# Altium integrated library Microchip DSC 16-Bit dsPIC30F.IntLib: 277 symbols (part 4 of 12)
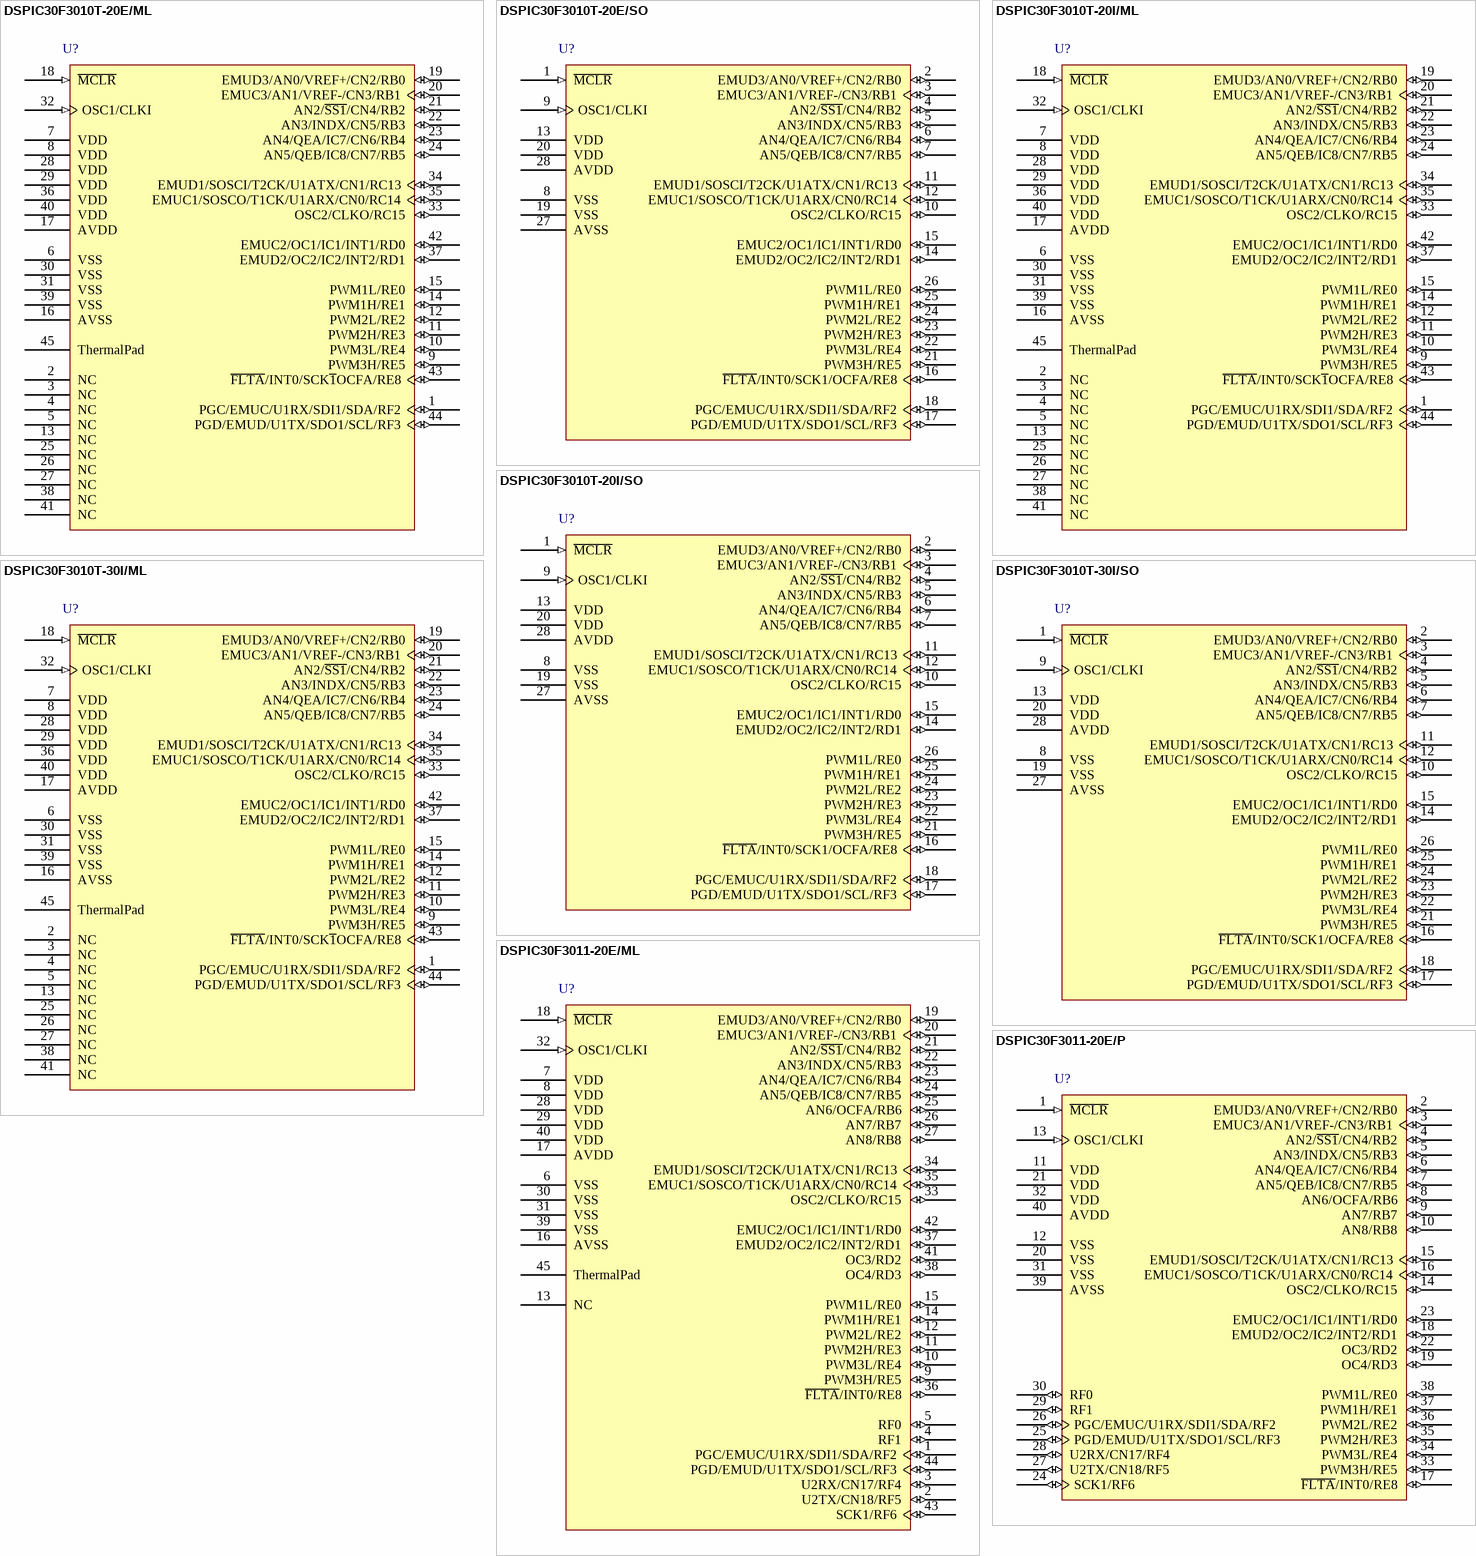
[diagram p47: symbols DSPIC30F3010T-20E/ML to DSPIC30F3011-20E/P]

## DSPIC30F3010T-20I/SO
designator U?
High-Performance 16-bit Digital Signal Controller, 24 KB Flash, 1 KB SRAM, 1 KB EEPROM, 28-Pin SOIC, Industrial Temperature, Tape and Reel; Published: 29-Jan-2009; DatasheetVersion: revE, Apr-2008; PackageVersion: revAW, Oct-2008; PackageReference: SOIC-SO28; Publisher: Altium Limited; PackageDescription: 28-Lead Plastic Small Outline (SO) - Wide 7.50mm Body [SOIC]; Code_JEDEC: MS-013; ComponentLink1Description: Manufacturer Link; ComponentLink1URL: http://www.microchip.com; ComponentLink2Description: Datasheet; ComponentLink2URL: http://ww1.microchip.com/downloads/en/DeviceDoc/70141e.pdf; ComponentLink3Description: Packaging Specification; ComponentLink3URL: http://ww1.microchip.com/downloads/en/PackagingSpec/00049AW.pdf
footprint SOIC-SO28_N (SOIC, 28-Leads, Body 17.9x7.5mm, Pitch 1.27mm, IPC Medium Density)
footprint SOIC-SO28_L (SOIC, 28-Leads, Body 17.9x7.5mm, Pitch 1.27mm, IPC High Density)
footprint SOIC-SO28_M (SOIC, 28-Leads, Body 17.9x7.5mm, Pitch 1.27mm, IPC Low Density)
pins: 1 ~{MCLR} (in), 2 EMUD3/AN0/VREF+/CN2/RB0 (io), 3 EMUC3/AN1/VREF-/CN3/RB1 (io), 4 AN2/~{SS1}/CN4/RB2 (io), 5 AN3/INDX/CN5/RB3 (io), 6 AN4/QEA/IC7/CN6/RB4 (io), 7 AN5/QEB/IC8/CN7/RB5 (io), 8 VSS (power), 9 OSC1/CLKI (in), 10 OSC2/CLKO/RC15 (io), 11 EMUD1/SOSCI/T2CK/U1ATX/CN1/RC13 (io), 12 EMUC1/SOSCO/T1CK/U1ARX/CN0/RC14 (io), 13 VDD (power), 14 EMUD2/OC2/IC2/INT2/RD1 (io), 15 EMUC2/OC1/IC1/INT1/RD0 (io), 16 ~{FLTA}/INT0/SCK1/OCFA/RE8 (io), 17 PGD/EMUD/U1TX/SDO1/SCL/RF3 (io), 18 PGC/EMUC/U1RX/SDI1/SDA/RF2 (io), 19 VSS (power), 20 VDD (power), 21 PWM3H/RE5 (io), 22 PWM3L/RE4 (io), 23 PWM2H/RE3 (io), 24 PWM2L/RE2 (io), 25 PWM1H/RE1 (io), 26 PWM1L/RE0 (io), 27 AVSS (power), 28 AVDD (power)

## DSPIC30F3010T-30I/ML
designator U?
High-Performance 16-bit Digital Signal Controller, 24 KB Flash, 1 KB SRAM, 1 KB EEPROM, 44-Pin QFN, Industrial Temperature, Tape and Reel; Published: 29-Jan-2009; DatasheetVersion: revE, Apr-2008; PackageVersion: revAW, Oct-2008; PackageReference: QFN-ML44; Publisher: Altium Limited; PackageDescription: 44-Lead Plastic Quad Flat, No Lead Package (ML) - 8x8 mm Body [QFN]; Code_JEDEC: MO-220; Code_IPC: QFN65P800X800-44V2; ComponentLink1Description: Manufacturer Link; ComponentLink1URL: http://www.microchip.com; ComponentLink2Description: Datasheet; ComponentLink2URL: http://ww1.microchip.com/downloads/en/DeviceDoc/70141e.pdf; ComponentLink3Description: Packaging Specification; ComponentLink3URL: http://ww1.microchip.com/downloads/en/PackagingSpec/00049AW.pdf
footprint QFN-ML44_N (QFN, 44-Leads, Body 8x8 mm, Pitch 0.65mm, IPC Medium Density)
footprint QFN-ML44_L (QFN, 44-Leads, Body 8x8 mm, Pitch 0.65mm, IPC High Density)
footprint QFN-ML44_M (QFN, 44-Leads, Body 8x8 mm, Pitch 0.65mm, IPC Low Density)
pins: 1 PGC/EMUC/U1RX/SDI1/SDA/RF2 (io), 2 NC, 3 NC, 4 NC, 5 NC, 6 VSS (power), 7 VDD (power), 8 VDD (power), 9 PWM3H/RE5 (io), 10 PWM3L/RE4 (io), 11 PWM2H/RE3 (io), 12 PWM2L/RE2 (io), 13 NC, 14 PWM1H/RE1 (io), 15 PWM1L/RE0 (io), 16 AVSS (power), 17 AVDD (power), 18 ~{MCLR} (in), 19 EMUD3/AN0/VREF+/CN2/RB0 (io), 20 EMUC3/AN1/VREF-/CN3/RB1 (io), 21 AN2/~{SS1}/CN4/RB2 (io), 22 AN3/INDX/CN5/RB3 (io), 23 AN4/QEA/IC7/CN6/RB4 (io), 24 AN5/QEB/IC8/CN7/RB5 (io), 25 NC, 26 NC, 27 NC, 28 VDD (power), 29 VDD (power), 30 VSS (power), 31 VSS (power), 32 OSC1/CLKI (in), 33 OSC2/CLKO/RC15 (io), 34 EMUD1/SOSCI/T2CK/U1ATX/CN1/RC13 (io), 35 EMUC1/SOSCO/T1CK/U1ARX/CN0/RC14 (io), 36 VDD (power), 37 EMUD2/OC2/IC2/INT2/RD1 (io), 38 NC, 39 VSS (power), 40 VDD (power), 41 NC, 42 EMUC2/OC1/IC1/INT1/RD0 (io), 43 ~{FLTA}/INT0/SCK~{1}OCFA/RE8 (io), 44 PGD/EMUD/U1TX/SDO1/SCL/RF3 (io), 45 ThermalPad

## DSPIC30F3010T-30I/SO
designator U?
High-Performance 16-bit Digital Signal Controller, 24 KB Flash, 1 KB SRAM, 1 KB EEPROM, 28-Pin SOIC, Industrial Temperature, Tape and Reel; Published: 29-Jan-2009; DatasheetVersion: revE, Apr-2008; PackageVersion: revAW, Oct-2008; PackageReference: SOIC-SO28; Publisher: Altium Limited; PackageDescription: 28-Lead Plastic Small Outline (SO) - Wide 7.50mm Body [SOIC]; Code_JEDEC: MS-013; ComponentLink1Description: Manufacturer Link; ComponentLink1URL: http://www.microchip.com; ComponentLink2Description: Datasheet; ComponentLink2URL: http://ww1.microchip.com/downloads/en/DeviceDoc/70141e.pdf; ComponentLink3Description: Packaging Specification; ComponentLink3URL: http://ww1.microchip.com/downloads/en/PackagingSpec/00049AW.pdf
footprint SOIC-SO28_N (SOIC, 28-Leads, Body 17.9x7.5mm, Pitch 1.27mm, IPC Medium Density)
footprint SOIC-SO28_L (SOIC, 28-Leads, Body 17.9x7.5mm, Pitch 1.27mm, IPC High Density)
footprint SOIC-SO28_M (SOIC, 28-Leads, Body 17.9x7.5mm, Pitch 1.27mm, IPC Low Density)
pins: 1 ~{MCLR} (in), 2 EMUD3/AN0/VREF+/CN2/RB0 (io), 3 EMUC3/AN1/VREF-/CN3/RB1 (io), 4 AN2/~{SS1}/CN4/RB2 (io), 5 AN3/INDX/CN5/RB3 (io), 6 AN4/QEA/IC7/CN6/RB4 (io), 7 AN5/QEB/IC8/CN7/RB5 (io), 8 VSS (power), 9 OSC1/CLKI (in), 10 OSC2/CLKO/RC15 (io), 11 EMUD1/SOSCI/T2CK/U1ATX/CN1/RC13 (io), 12 EMUC1/SOSCO/T1CK/U1ARX/CN0/RC14 (io), 13 VDD (power), 14 EMUD2/OC2/IC2/INT2/RD1 (io), 15 EMUC2/OC1/IC1/INT1/RD0 (io), 16 ~{FLTA}/INT0/SCK1/OCFA/RE8 (io), 17 PGD/EMUD/U1TX/SDO1/SCL/RF3 (io), 18 PGC/EMUC/U1RX/SDI1/SDA/RF2 (io), 19 VSS (power), 20 VDD (power), 21 PWM3H/RE5 (io), 22 PWM3L/RE4 (io), 23 PWM2H/RE3 (io), 24 PWM2L/RE2 (io), 25 PWM1H/RE1 (io), 26 PWM1L/RE0 (io), 27 AVSS (power), 28 AVDD (power)

## DSPIC30F3011-20E/ML
designator U?
High-Performance 16-bit Digital Signal Controller, 24 KB Flash, 1 KB SRAM, 1 KB EEPROM, 44-Pin QFN, Extended High Temperature; Published: 29-Jan-2009; DatasheetVersion: revE, Apr-2008; PackageVersion: revAW, Oct-2008; PackageReference: QFN-ML44; Publisher: Altium Limited; PackageDescription: 44-Lead Plastic Quad Flat, No Lead Package (ML) - 8x8 mm Body [QFN]; Code_JEDEC: MO-220; Code_IPC: QFN65P800X800-44V2; ComponentLink1Description: Manufacturer Link; ComponentLink1URL: http://www.microchip.com; ComponentLink2Description: Datasheet; ComponentLink2URL: http://ww1.microchip.com/downloads/en/DeviceDoc/70141e.pdf; ComponentLink3Description: Packaging Specification; ComponentLink3URL: http://ww1.microchip.com/downloads/en/PackagingSpec/00049AW.pdf
footprint QFN-ML44_N (QFN, 44-Leads, Body 8x8 mm, Pitch 0.65mm, IPC Medium Density)
footprint QFN-ML44_L (QFN, 44-Leads, Body 8x8 mm, Pitch 0.65mm, IPC High Density)
footprint QFN-ML44_M (QFN, 44-Leads, Body 8x8 mm, Pitch 0.65mm, IPC Low Density)
pins: 1 PGC/EMUC/U1RX/SDI1/SDA/RF2 (io), 2 U2TX/CN18/RF5 (io), 3 U2RX/CN17/RF4 (io), 4 RF1 (io), 5 RF0 (io), 6 VSS (power), 7 VDD (power), 8 VDD (power), 9 PWM3H/RE5 (io), 10 PWM3L/RE4 (io), 11 PWM2H/RE3 (io), 12 PWM2L/RE2 (io), 13 NC, 14 PWM1H/RE1 (io), 15 PWM1L/RE0 (io), 16 AVSS (power), 17 AVDD (power), 18 ~{MCLR} (in), 19 EMUD3/AN0/VREF+/CN2/RB0 (io), 20 EMUC3/AN1/VREF-/CN3/RB1 (io), 21 AN2/~{SS1}/CN4/RB2 (io), 22 AN3/INDX/CN5/RB3 (io), 23 AN4/QEA/IC7/CN6/RB4 (io), 24 AN5/QEB/IC8/CN7/RB5 (io), 25 AN6/OCFA/RB6 (io), 26 AN7/RB7 (io), 27 AN8/RB8 (io), 28 VDD (power), 29 VDD (power), 30 VSS (power), 31 VSS (power), 32 OSC1/CLKI (in), 33 OSC2/CLKO/RC15 (io), 34 EMUD1/SOSCI/T2CK/U1ATX/CN1/RC13 (io), 35 EMUC1/SOSCO/T1CK/U1ARX/CN0/RC14 (io), 36 ~{FLTA}/INT0/RE8 (io), 37 EMUD2/OC2/IC2/INT2/RD1 (io), 38 OC4/RD3 (io), 39 VSS (power), 40 VDD (power), 41 OC3/RD2 (io), 42 EMUC2/OC1/IC1/INT1/RD0 (io), 43 SCK1/RF6 (io), 44 PGD/EMUD/U1TX/SDO1/SCL/RF3 (io), 45 ThermalPad

## DSPIC30F3011-20E/P
designator U?
High-Performance 16-bit Digital Signal Controller, 24 KB Flash, 1 KB SRAM, 1 KB EEPROM, 40-Pin PDIP, Extended High Temperature; Published: 29-Jan-2009; DatasheetVersion: revE, Apr-2008; PackageVersion: revAW, Oct-2008; PackageReference: PDIP600-P40; Publisher: Altium Limited; PackageDescription: 40-Lead Plastic Dual In-Line (P) - 600 mil Body [PDIP]; ComponentLink1Description: Manufacturer Link; ComponentLink1URL: http://www.microchip.com; ComponentLink2Description: Datasheet; ComponentLink2URL: http://ww1.microchip.com/downloads/en/DeviceDoc/70141e.pdf; ComponentLink3Description: Packaging Specification; ComponentLink3URL: http://ww1.microchip.com/downloads/en/PackagingSpec/00049AW.pdf
footprint PDIP600-P40 (DIP, 40-Leads, Row Spacing 15.24mm, Pitch 2.54mm, Body 51.8x13.5mm)
pins: 1 ~{MCLR} (in), 2 EMUD3/AN0/VREF+/CN2/RB0 (io), 3 EMUC3/AN1/VREF-/CN3/RB1 (io), 4 AN2/~{SS1}/CN4/RB2 (io), 5 AN3/INDX/CN5/RB3 (io), 6 AN4/QEA/IC7/CN6/RB4 (io), 7 AN5/QEB/IC8/CN7/RB5 (io), 8 AN6/OCFA/RB6 (io), 9 AN7/RB7 (io), 10 AN8/RB8 (io), 11 VDD (power), 12 VSS (power), 13 OSC1/CLKI (in), 14 OSC2/CLKO/RC15 (io), 15 EMUD1/SOSCI/T2CK/U1ATX/CN1/RC13 (io), 16 EMUC1/SOSCO/T1CK/U1ARX/CN0/RC14 (io), 17 ~{FLTA}/INT0/RE8 (io), 18 EMUD2/OC2/IC2/INT2/RD1 (io), 19 OC4/RD3 (io), 20 VSS (power), 21 VDD (power), 22 OC3/RD2 (io), 23 EMUC2/OC1/IC1/INT1/RD0 (io), 24 SCK1/RF6 (io), 25 PGD/EMUD/U1TX/SDO1/SCL/RF3 (io), 26 PGC/EMUC/U1RX/SDI1/SDA/RF2 (io), 27 U2TX/CN18/RF5 (io), 28 U2RX/CN17/RF4 (io), 29 RF1 (io), 30 RF0 (io), 31 VSS (power), 32 VDD (power), 33 PWM3H/RE5 (io), 34 PWM3L/RE4 (io), 35 PWM2H/RE3 (io), 36 PWM2L/RE2 (io), 37 PWM1H/RE1 (io), 38 PWM1L/RE0 (io), 39 AVSS (power), 40 AVDD (power)

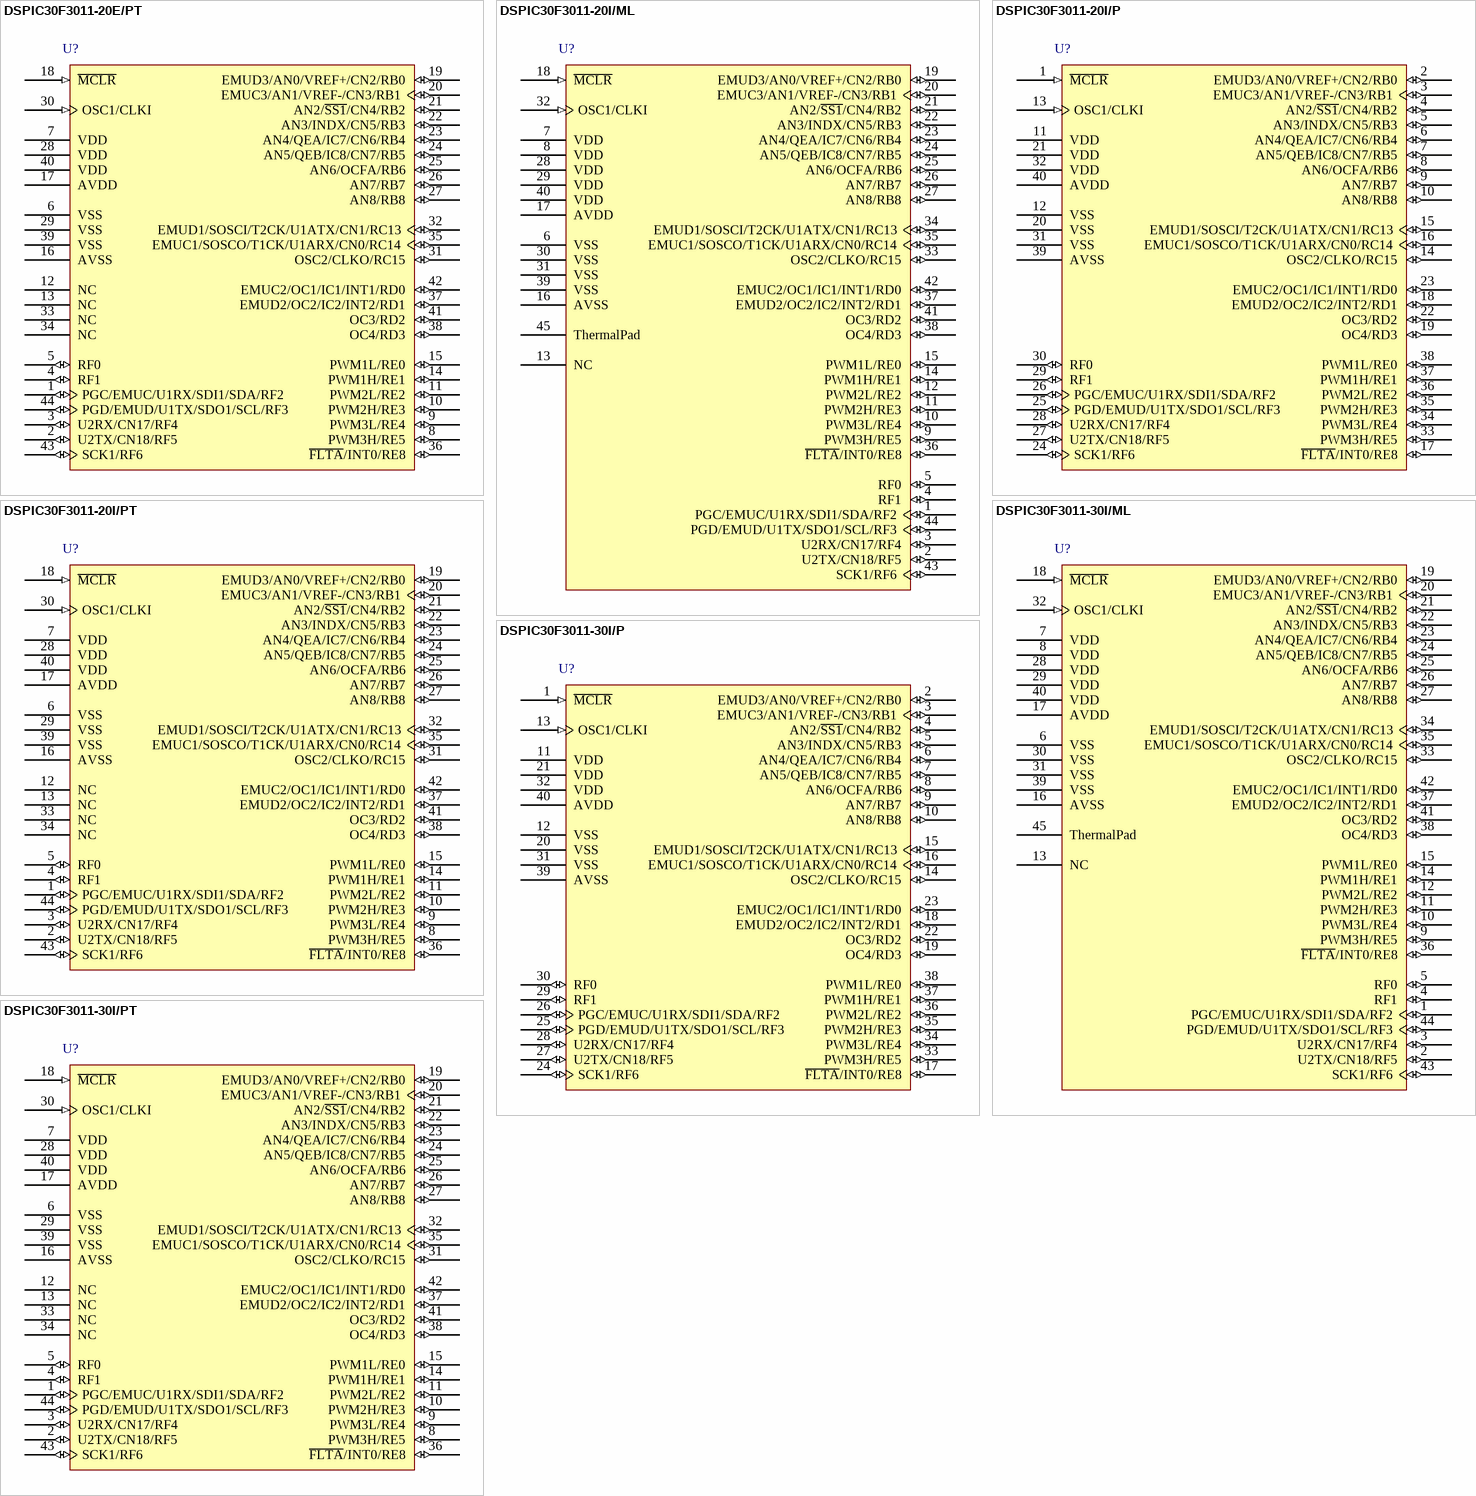
[diagram p11: symbols DSPIC30F3011-20E/PT to DSPIC30F3011-30I/PT]

## DSPIC30F3011-20E/PT
designator U?
High-Performance 16-bit Digital Signal Controller, 24 KB Flash, 1 KB SRAM, 1 KB EEPROM, 44-Pin TQFP, Extended High Temperature; Published: 29-Jan-2009; DatasheetVersion: revE, Apr-2008; PackageVersion: revAW, Oct-2008; PackageReference: TQFP-PT44; Publisher: Altium Limited; PackageDescription: 44-Lead Plastic Thin Quad Flatpack (PT) - 10x10x1mm Body, 2.00mm [TQFP]; Code_JEDEC: MS-026; ComponentLink1Description: Manufacturer Link; ComponentLink1URL: http://www.microchip.com; ComponentLink2Description: Datasheet; ComponentLink2URL: http://ww1.microchip.com/downloads/en/DeviceDoc/70141e.pdf; ComponentLink3Description: Packaging Specification; ComponentLink3URL: http://ww1.microchip.com/downloads/en/PackagingSpec/00049AW.pdf
footprint TQFP-PT44_N (Thin QFP, 44-Leads, Body 10x10mm, Pitch 0.8mm, IPC Medium Density)
footprint TQFP-PT44_L (Thin QFP, 44-Leads, Body 10x10mm, Pitch 0.8mm, IPC High Density)
footprint TQFP-PT44_M (Thin QFP, 44-Leads, Body 10x10mm, Pitch 0.8mm, IPC Low Density)
pins: 1 PGC/EMUC/U1RX/SDI1/SDA/RF2 (io), 2 U2TX/CN18/RF5 (io), 3 U2RX/CN17/RF4 (io), 4 RF1 (io), 5 RF0 (io), 6 VSS (power), 7 VDD (power), 8 PWM3H/RE5 (io), 9 PWM3L/RE4 (io), 10 PWM2H/RE3 (io), 11 PWM2L/RE2 (io), 12 NC, 13 NC, 14 PWM1H/RE1 (io), 15 PWM1L/RE0 (io), 16 AVSS (power), 17 AVDD (power), 18 ~{MCLR} (in), 19 EMUD3/AN0/VREF+/CN2/RB0 (io), 20 EMUC3/AN1/VREF-/CN3/RB1 (io), 21 AN2/~{SS1}/CN4/RB2 (io), 22 AN3/INDX/CN5/RB3 (io), 23 AN4/QEA/IC7/CN6/RB4 (io), 24 AN5/QEB/IC8/CN7/RB5 (io), 25 AN6/OCFA/RB6 (io), 26 AN7/RB7 (io), 27 AN8/RB8 (io), 28 VDD (power), 29 VSS (power), 30 OSC1/CLKI (in), 31 OSC2/CLKO/RC15 (io), 32 EMUD1/SOSCI/T2CK/U1ATX/CN1/RC13 (io), 33 NC, 34 NC, 35 EMUC1/SOSCO/T1CK/U1ARX/CN0/RC14 (io), 36 ~{FLTA}/INT0/RE8 (io), 37 EMUD2/OC2/IC2/INT2/RD1 (io), 38 OC4/RD3 (io), 39 VSS (power), 40 VDD (power), 41 OC3/RD2 (io), 42 EMUC2/OC1/IC1/INT1/RD0 (io), 43 SCK1/RF6 (io), 44 PGD/EMUD/U1TX/SDO1/SCL/RF3 (io)

## DSPIC30F3011-20I/ML
designator U?
High-Performance 16-bit Digital Signal Controller, 24 KB Flash, 1 KB SRAM, 1 KB EEPROM, 44-Pin QFN, Industrial Temperature; Published: 29-Jan-2009; DatasheetVersion: revE, Apr-2008; PackageVersion: revAW, Oct-2008; PackageReference: QFN-ML44; Publisher: Altium Limited; PackageDescription: 44-Lead Plastic Quad Flat, No Lead Package (ML) - 8x8 mm Body [QFN]; Code_JEDEC: MO-220; Code_IPC: QFN65P800X800-44V2; ComponentLink1Description: Manufacturer Link; ComponentLink1URL: http://www.microchip.com; ComponentLink2Description: Datasheet; ComponentLink2URL: http://ww1.microchip.com/downloads/en/DeviceDoc/70141e.pdf; ComponentLink3Description: Packaging Specification; ComponentLink3URL: http://ww1.microchip.com/downloads/en/PackagingSpec/00049AW.pdf
footprint QFN-ML44_N (QFN, 44-Leads, Body 8x8 mm, Pitch 0.65mm, IPC Medium Density)
footprint QFN-ML44_L (QFN, 44-Leads, Body 8x8 mm, Pitch 0.65mm, IPC High Density)
footprint QFN-ML44_M (QFN, 44-Leads, Body 8x8 mm, Pitch 0.65mm, IPC Low Density)
pins: 1 PGC/EMUC/U1RX/SDI1/SDA/RF2 (io), 2 U2TX/CN18/RF5 (io), 3 U2RX/CN17/RF4 (io), 4 RF1 (io), 5 RF0 (io), 6 VSS (power), 7 VDD (power), 8 VDD (power), 9 PWM3H/RE5 (io), 10 PWM3L/RE4 (io), 11 PWM2H/RE3 (io), 12 PWM2L/RE2 (io), 13 NC, 14 PWM1H/RE1 (io), 15 PWM1L/RE0 (io), 16 AVSS (power), 17 AVDD (power), 18 ~{MCLR} (in), 19 EMUD3/AN0/VREF+/CN2/RB0 (io), 20 EMUC3/AN1/VREF-/CN3/RB1 (io), 21 AN2/~{SS1}/CN4/RB2 (io), 22 AN3/INDX/CN5/RB3 (io), 23 AN4/QEA/IC7/CN6/RB4 (io), 24 AN5/QEB/IC8/CN7/RB5 (io), 25 AN6/OCFA/RB6 (io), 26 AN7/RB7 (io), 27 AN8/RB8 (io), 28 VDD (power), 29 VDD (power), 30 VSS (power), 31 VSS (power), 32 OSC1/CLKI (in), 33 OSC2/CLKO/RC15 (io), 34 EMUD1/SOSCI/T2CK/U1ATX/CN1/RC13 (io), 35 EMUC1/SOSCO/T1CK/U1ARX/CN0/RC14 (io), 36 ~{FLTA}/INT0/RE8 (io), 37 EMUD2/OC2/IC2/INT2/RD1 (io), 38 OC4/RD3 (io), 39 VSS (power), 40 VDD (power), 41 OC3/RD2 (io), 42 EMUC2/OC1/IC1/INT1/RD0 (io), 43 SCK1/RF6 (io), 44 PGD/EMUD/U1TX/SDO1/SCL/RF3 (io), 45 ThermalPad

## DSPIC30F3011-20I/P
designator U?
High-Performance 16-bit Digital Signal Controller, 24 KB Flash, 1 KB SRAM, 1 KB EEPROM, 40-Pin PDIP, Industrial Temperature; Published: 29-Jan-2009; DatasheetVersion: revE, Apr-2008; PackageVersion: revAW, Oct-2008; PackageReference: PDIP600-P40; Publisher: Altium Limited; PackageDescription: 40-Lead Plastic Dual In-Line (P) - 600 mil Body [PDIP]; ComponentLink1Description: Manufacturer Link; ComponentLink1URL: http://www.microchip.com; ComponentLink2Description: Datasheet; ComponentLink2URL: http://ww1.microchip.com/downloads/en/DeviceDoc/70141e.pdf; ComponentLink3Description: Packaging Specification; ComponentLink3URL: http://ww1.microchip.com/downloads/en/PackagingSpec/00049AW.pdf
footprint PDIP600-P40 (DIP, 40-Leads, Row Spacing 15.24mm, Pitch 2.54mm, Body 51.8x13.5mm)
pins: 1 ~{MCLR} (in), 2 EMUD3/AN0/VREF+/CN2/RB0 (io), 3 EMUC3/AN1/VREF-/CN3/RB1 (io), 4 AN2/~{SS1}/CN4/RB2 (io), 5 AN3/INDX/CN5/RB3 (io), 6 AN4/QEA/IC7/CN6/RB4 (io), 7 AN5/QEB/IC8/CN7/RB5 (io), 8 AN6/OCFA/RB6 (io), 9 AN7/RB7 (io), 10 AN8/RB8 (io), 11 VDD (power), 12 VSS (power), 13 OSC1/CLKI (in), 14 OSC2/CLKO/RC15 (io), 15 EMUD1/SOSCI/T2CK/U1ATX/CN1/RC13 (io), 16 EMUC1/SOSCO/T1CK/U1ARX/CN0/RC14 (io), 17 ~{FLTA}/INT0/RE8 (io), 18 EMUD2/OC2/IC2/INT2/RD1 (io), 19 OC4/RD3 (io), 20 VSS (power), 21 VDD (power), 22 OC3/RD2 (io), 23 EMUC2/OC1/IC1/INT1/RD0 (io), 24 SCK1/RF6 (io), 25 PGD/EMUD/U1TX/SDO1/SCL/RF3 (io), 26 PGC/EMUC/U1RX/SDI1/SDA/RF2 (io), 27 U2TX/CN18/RF5 (io), 28 U2RX/CN17/RF4 (io), 29 RF1 (io), 30 RF0 (io), 31 VSS (power), 32 VDD (power), 33 PWM3H/RE5 (io), 34 PWM3L/RE4 (io), 35 PWM2H/RE3 (io), 36 PWM2L/RE2 (io), 37 PWM1H/RE1 (io), 38 PWM1L/RE0 (io), 39 AVSS (power), 40 AVDD (power)

## DSPIC30F3011-20I/PT
designator U?
High-Performance 16-bit Digital Signal Controller, 24 KB Flash, 1 KB SRAM, 1 KB EEPROM, 44-Pin TQFP, Industrial Temperature; Published: 29-Jan-2009; DatasheetVersion: revE, Apr-2008; PackageVersion: revAW, Oct-2008; PackageReference: TQFP-PT44; Publisher: Altium Limited; PackageDescription: 44-Lead Plastic Thin Quad Flatpack (PT) - 10x10x1mm Body, 2.00mm [TQFP]; Code_JEDEC: MS-026; ComponentLink1Description: Manufacturer Link; ComponentLink1URL: http://www.microchip.com; ComponentLink2Description: Datasheet; ComponentLink2URL: http://ww1.microchip.com/downloads/en/DeviceDoc/70141e.pdf; ComponentLink3Description: Packaging Specification; ComponentLink3URL: http://ww1.microchip.com/downloads/en/PackagingSpec/00049AW.pdf
footprint TQFP-PT44_N (Thin QFP, 44-Leads, Body 10x10mm, Pitch 0.8mm, IPC Medium Density)
footprint TQFP-PT44_L (Thin QFP, 44-Leads, Body 10x10mm, Pitch 0.8mm, IPC High Density)
footprint TQFP-PT44_M (Thin QFP, 44-Leads, Body 10x10mm, Pitch 0.8mm, IPC Low Density)
pins: 1 PGC/EMUC/U1RX/SDI1/SDA/RF2 (io), 2 U2TX/CN18/RF5 (io), 3 U2RX/CN17/RF4 (io), 4 RF1 (io), 5 RF0 (io), 6 VSS (power), 7 VDD (power), 8 PWM3H/RE5 (io), 9 PWM3L/RE4 (io), 10 PWM2H/RE3 (io), 11 PWM2L/RE2 (io), 12 NC, 13 NC, 14 PWM1H/RE1 (io), 15 PWM1L/RE0 (io), 16 AVSS (power), 17 AVDD (power), 18 ~{MCLR} (in), 19 EMUD3/AN0/VREF+/CN2/RB0 (io), 20 EMUC3/AN1/VREF-/CN3/RB1 (io), 21 AN2/~{SS1}/CN4/RB2 (io), 22 AN3/INDX/CN5/RB3 (io), 23 AN4/QEA/IC7/CN6/RB4 (io), 24 AN5/QEB/IC8/CN7/RB5 (io), 25 AN6/OCFA/RB6 (io), 26 AN7/RB7 (io), 27 AN8/RB8 (io), 28 VDD (power), 29 VSS (power), 30 OSC1/CLKI (in), 31 OSC2/CLKO/RC15 (io), 32 EMUD1/SOSCI/T2CK/U1ATX/CN1/RC13 (io), 33 NC, 34 NC, 35 EMUC1/SOSCO/T1CK/U1ARX/CN0/RC14 (io), 36 ~{FLTA}/INT0/RE8 (io), 37 EMUD2/OC2/IC2/INT2/RD1 (io), 38 OC4/RD3 (io), 39 VSS (power), 40 VDD (power), 41 OC3/RD2 (io), 42 EMUC2/OC1/IC1/INT1/RD0 (io), 43 SCK1/RF6 (io), 44 PGD/EMUD/U1TX/SDO1/SCL/RF3 (io)

## DSPIC30F3011-30I/ML
designator U?
High-Performance 16-bit Digital Signal Controller, 24 KB Flash, 1 KB SRAM, 1 KB EEPROM, 44-Pin QFN, Industrial Temperature; Published: 29-Jan-2009; DatasheetVersion: revE, Apr-2008; PackageVersion: revAW, Oct-2008; PackageReference: QFN-ML44; Publisher: Altium Limited; PackageDescription: 44-Lead Plastic Quad Flat, No Lead Package (ML) - 8x8 mm Body [QFN]; Code_JEDEC: MO-220; Code_IPC: QFN65P800X800-44V2; ComponentLink1Description: Manufacturer Link; ComponentLink1URL: http://www.microchip.com; ComponentLink2Description: Datasheet; ComponentLink2URL: http://ww1.microchip.com/downloads/en/DeviceDoc/70141e.pdf; ComponentLink3Description: Packaging Specification; ComponentLink3URL: http://ww1.microchip.com/downloads/en/PackagingSpec/00049AW.pdf
footprint QFN-ML44_N (QFN, 44-Leads, Body 8x8 mm, Pitch 0.65mm, IPC Medium Density)
footprint QFN-ML44_L (QFN, 44-Leads, Body 8x8 mm, Pitch 0.65mm, IPC High Density)
footprint QFN-ML44_M (QFN, 44-Leads, Body 8x8 mm, Pitch 0.65mm, IPC Low Density)
pins: 1 PGC/EMUC/U1RX/SDI1/SDA/RF2 (io), 2 U2TX/CN18/RF5 (io), 3 U2RX/CN17/RF4 (io), 4 RF1 (io), 5 RF0 (io), 6 VSS (power), 7 VDD (power), 8 VDD (power), 9 PWM3H/RE5 (io), 10 PWM3L/RE4 (io), 11 PWM2H/RE3 (io), 12 PWM2L/RE2 (io), 13 NC, 14 PWM1H/RE1 (io), 15 PWM1L/RE0 (io), 16 AVSS (power), 17 AVDD (power), 18 ~{MCLR} (in), 19 EMUD3/AN0/VREF+/CN2/RB0 (io), 20 EMUC3/AN1/VREF-/CN3/RB1 (io), 21 AN2/~{SS1}/CN4/RB2 (io), 22 AN3/INDX/CN5/RB3 (io), 23 AN4/QEA/IC7/CN6/RB4 (io), 24 AN5/QEB/IC8/CN7/RB5 (io), 25 AN6/OCFA/RB6 (io), 26 AN7/RB7 (io), 27 AN8/RB8 (io), 28 VDD (power), 29 VDD (power), 30 VSS (power), 31 VSS (power), 32 OSC1/CLKI (in), 33 OSC2/CLKO/RC15 (io), 34 EMUD1/SOSCI/T2CK/U1ATX/CN1/RC13 (io), 35 EMUC1/SOSCO/T1CK/U1ARX/CN0/RC14 (io), 36 ~{FLTA}/INT0/RE8 (io), 37 EMUD2/OC2/IC2/INT2/RD1 (io), 38 OC4/RD3 (io), 39 VSS (power), 40 VDD (power), 41 OC3/RD2 (io), 42 EMUC2/OC1/IC1/INT1/RD0 (io), 43 SCK1/RF6 (io), 44 PGD/EMUD/U1TX/SDO1/SCL/RF3 (io), 45 ThermalPad

## DSPIC30F3011-30I/P
designator U?
High-Performance 16-bit Digital Signal Controller, 24 KB Flash, 1 KB SRAM, 1 KB EEPROM, 40-Pin PDIP, Industrial Temperature; Published: 29-Jan-2009; DatasheetVersion: revE, Apr-2008; PackageVersion: revAW, Oct-2008; PackageReference: PDIP600-P40; Publisher: Altium Limited; PackageDescription: 40-Lead Plastic Dual In-Line (P) - 600 mil Body [PDIP]; ComponentLink1Description: Manufacturer Link; ComponentLink1URL: http://www.microchip.com; ComponentLink2Description: Datasheet; ComponentLink2URL: http://ww1.microchip.com/downloads/en/DeviceDoc/70141e.pdf; ComponentLink3Description: Packaging Specification; ComponentLink3URL: http://ww1.microchip.com/downloads/en/PackagingSpec/00049AW.pdf
footprint PDIP600-P40 (DIP, 40-Leads, Row Spacing 15.24mm, Pitch 2.54mm, Body 51.8x13.5mm)
pins: 1 ~{MCLR} (in), 2 EMUD3/AN0/VREF+/CN2/RB0 (io), 3 EMUC3/AN1/VREF-/CN3/RB1 (io), 4 AN2/~{SS1}/CN4/RB2 (io), 5 AN3/INDX/CN5/RB3 (io), 6 AN4/QEA/IC7/CN6/RB4 (io), 7 AN5/QEB/IC8/CN7/RB5 (io), 8 AN6/OCFA/RB6 (io), 9 AN7/RB7 (io), 10 AN8/RB8 (io), 11 VDD (power), 12 VSS (power), 13 OSC1/CLKI (in), 14 OSC2/CLKO/RC15 (io), 15 EMUD1/SOSCI/T2CK/U1ATX/CN1/RC13 (io), 16 EMUC1/SOSCO/T1CK/U1ARX/CN0/RC14 (io), 17 ~{FLTA}/INT0/RE8 (io), 18 EMUD2/OC2/IC2/INT2/RD1 (io), 19 OC4/RD3 (io), 20 VSS (power), 21 VDD (power), 22 OC3/RD2 (io), 23 EMUC2/OC1/IC1/INT1/RD0 (io), 24 SCK1/RF6 (io), 25 PGD/EMUD/U1TX/SDO1/SCL/RF3 (io), 26 PGC/EMUC/U1RX/SDI1/SDA/RF2 (io), 27 U2TX/CN18/RF5 (io), 28 U2RX/CN17/RF4 (io), 29 RF1 (io), 30 RF0 (io), 31 VSS (power), 32 VDD (power), 33 PWM3H/RE5 (io), 34 PWM3L/RE4 (io), 35 PWM2H/RE3 (io), 36 PWM2L/RE2 (io), 37 PWM1H/RE1 (io), 38 PWM1L/RE0 (io), 39 AVSS (power), 40 AVDD (power)

## DSPIC30F3011-30I/PT
designator U?
High-Performance 16-bit Digital Signal Controller, 24 KB Flash, 1 KB SRAM, 1 KB EEPROM, 44-Pin TQFP, Industrial Temperature; Published: 29-Jan-2009; DatasheetVersion: revE, Apr-2008; PackageVersion: revAW, Oct-2008; PackageReference: TQFP-PT44; Publisher: Altium Limited; PackageDescription: 44-Lead Plastic Thin Quad Flatpack (PT) - 10x10x1mm Body, 2.00mm [TQFP]; Code_JEDEC: MS-026; ComponentLink1Description: Manufacturer Link; ComponentLink1URL: http://www.microchip.com; ComponentLink2Description: Datasheet; ComponentLink2URL: http://ww1.microchip.com/downloads/en/DeviceDoc/70141e.pdf; ComponentLink3Description: Packaging Specification; ComponentLink3URL: http://ww1.microchip.com/downloads/en/PackagingSpec/00049AW.pdf
footprint TQFP-PT44_N (Thin QFP, 44-Leads, Body 10x10mm, Pitch 0.8mm, IPC Medium Density)
footprint TQFP-PT44_L (Thin QFP, 44-Leads, Body 10x10mm, Pitch 0.8mm, IPC High Density)
footprint TQFP-PT44_M (Thin QFP, 44-Leads, Body 10x10mm, Pitch 0.8mm, IPC Low Density)
pins: 1 PGC/EMUC/U1RX/SDI1/SDA/RF2 (io), 2 U2TX/CN18/RF5 (io), 3 U2RX/CN17/RF4 (io), 4 RF1 (io), 5 RF0 (io), 6 VSS (power), 7 VDD (power), 8 PWM3H/RE5 (io), 9 PWM3L/RE4 (io), 10 PWM2H/RE3 (io), 11 PWM2L/RE2 (io), 12 NC, 13 NC, 14 PWM1H/RE1 (io), 15 PWM1L/RE0 (io), 16 AVSS (power), 17 AVDD (power), 18 ~{MCLR} (in), 19 EMUD3/AN0/VREF+/CN2/RB0 (io), 20 EMUC3/AN1/VREF-/CN3/RB1 (io), 21 AN2/~{SS1}/CN4/RB2 (io), 22 AN3/INDX/CN5/RB3 (io), 23 AN4/QEA/IC7/CN6/RB4 (io), 24 AN5/QEB/IC8/CN7/RB5 (io), 25 AN6/OCFA/RB6 (io), 26 AN7/RB7 (io), 27 AN8/RB8 (io), 28 VDD (power), 29 VSS (power), 30 OSC1/CLKI (in), 31 OSC2/CLKO/RC15 (io), 32 EMUD1/SOSCI/T2CK/U1ATX/CN1/RC13 (io), 33 NC, 34 NC, 35 EMUC1/SOSCO/T1CK/U1ARX/CN0/RC14 (io), 36 ~{FLTA}/INT0/RE8 (io), 37 EMUD2/OC2/IC2/INT2/RD1 (io), 38 OC4/RD3 (io), 39 VSS (power), 40 VDD (power), 41 OC3/RD2 (io), 42 EMUC2/OC1/IC1/INT1/RD0 (io), 43 SCK1/RF6 (io), 44 PGD/EMUD/U1TX/SDO1/SCL/RF3 (io)

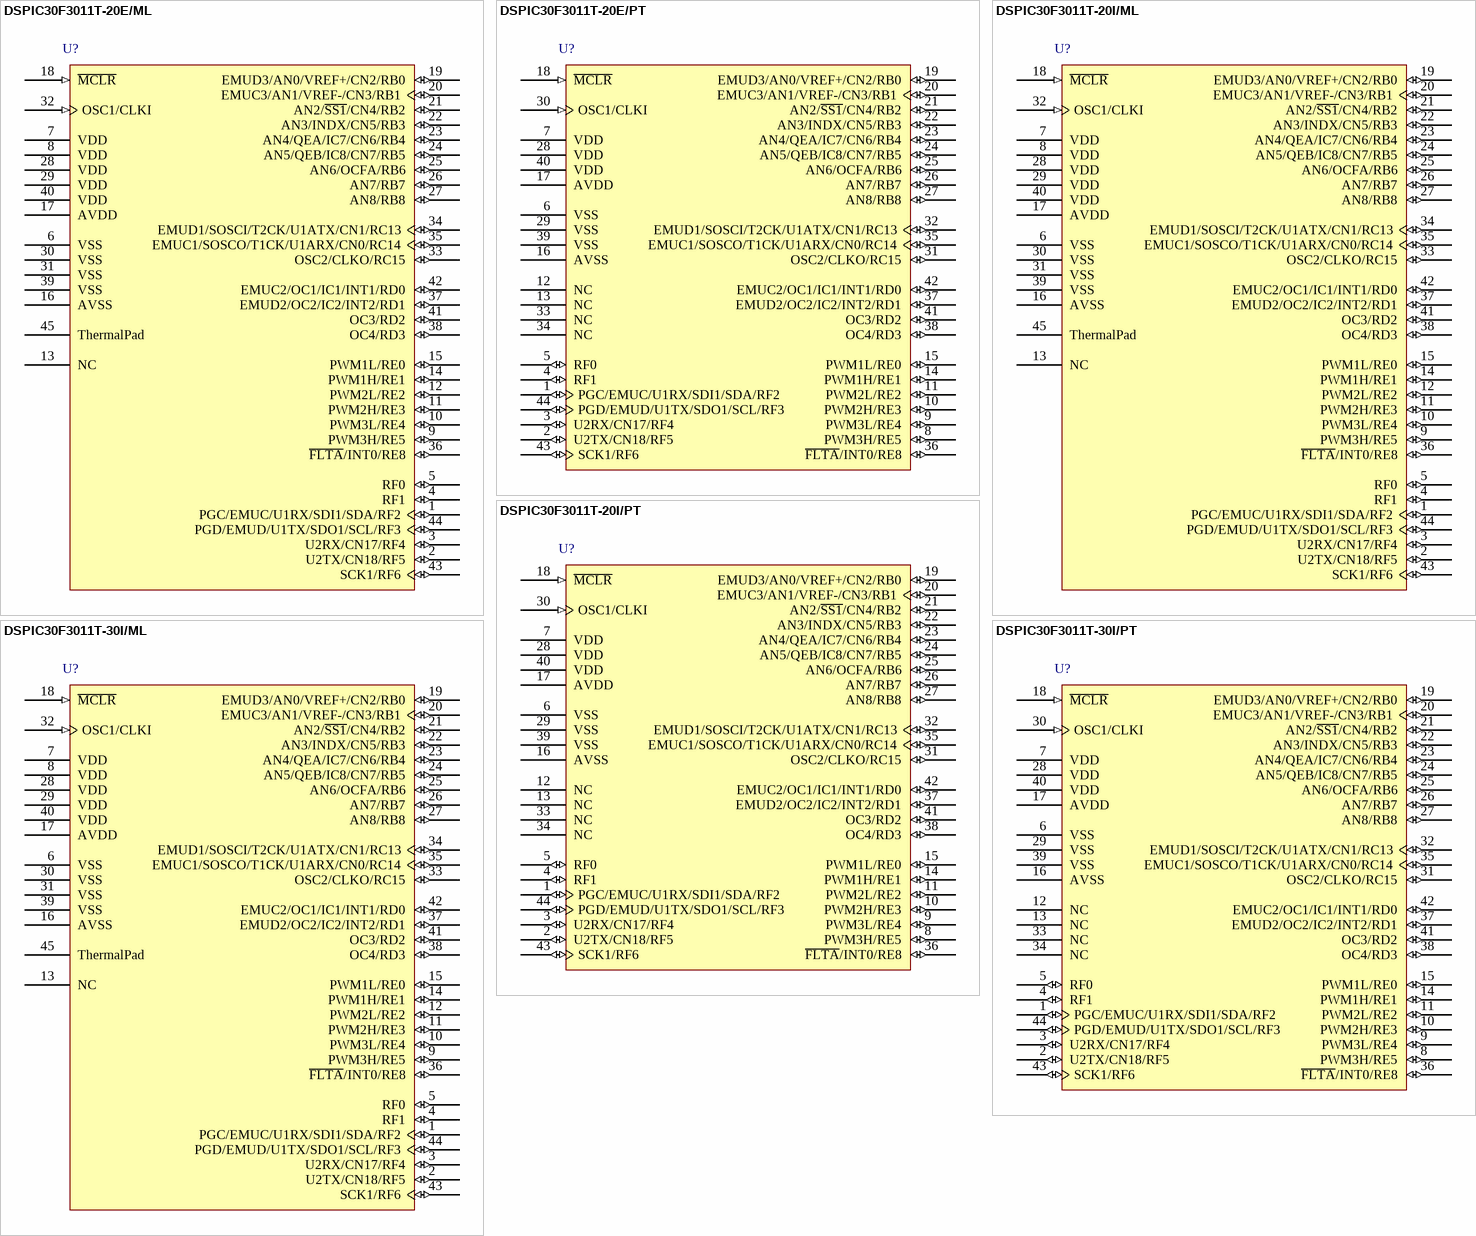
[diagram p12: symbols DSPIC30F3011T-20E/ML to DSPIC30F3011T-30I/PT]

## DSPIC30F3011T-20E/ML
designator U?
High-Performance 16-bit Digital Signal Controller, 24 KB Flash, 1 KB SRAM, 1 KB EEPROM, 44-Pin QFN, Extended High Temperature, Tape and Reel; Published: 29-Jan-2009; DatasheetVersion: revE, Apr-2008; PackageVersion: revAW, Oct-2008; PackageReference: QFN-ML44; Publisher: Altium Limited; PackageDescription: 44-Lead Plastic Quad Flat, No Lead Package (ML) - 8x8 mm Body [QFN]; Code_JEDEC: MO-220; Code_IPC: QFN65P800X800-44V2; ComponentLink1Description: Manufacturer Link; ComponentLink1URL: http://www.microchip.com; ComponentLink2Description: Datasheet; ComponentLink2URL: http://ww1.microchip.com/downloads/en/DeviceDoc/70141e.pdf; ComponentLink3Description: Packaging Specification; ComponentLink3URL: http://ww1.microchip.com/downloads/en/PackagingSpec/00049AW.pdf
footprint QFN-ML44_N (QFN, 44-Leads, Body 8x8 mm, Pitch 0.65mm, IPC Medium Density)
footprint QFN-ML44_L (QFN, 44-Leads, Body 8x8 mm, Pitch 0.65mm, IPC High Density)
footprint QFN-ML44_M (QFN, 44-Leads, Body 8x8 mm, Pitch 0.65mm, IPC Low Density)
pins: 1 PGC/EMUC/U1RX/SDI1/SDA/RF2 (io), 2 U2TX/CN18/RF5 (io), 3 U2RX/CN17/RF4 (io), 4 RF1 (io), 5 RF0 (io), 6 VSS (power), 7 VDD (power), 8 VDD (power), 9 PWM3H/RE5 (io), 10 PWM3L/RE4 (io), 11 PWM2H/RE3 (io), 12 PWM2L/RE2 (io), 13 NC, 14 PWM1H/RE1 (io), 15 PWM1L/RE0 (io), 16 AVSS (power), 17 AVDD (power), 18 ~{MCLR} (in), 19 EMUD3/AN0/VREF+/CN2/RB0 (io), 20 EMUC3/AN1/VREF-/CN3/RB1 (io), 21 AN2/~{SS1}/CN4/RB2 (io), 22 AN3/INDX/CN5/RB3 (io), 23 AN4/QEA/IC7/CN6/RB4 (io), 24 AN5/QEB/IC8/CN7/RB5 (io), 25 AN6/OCFA/RB6 (io), 26 AN7/RB7 (io), 27 AN8/RB8 (io), 28 VDD (power), 29 VDD (power), 30 VSS (power), 31 VSS (power), 32 OSC1/CLKI (in), 33 OSC2/CLKO/RC15 (io), 34 EMUD1/SOSCI/T2CK/U1ATX/CN1/RC13 (io), 35 EMUC1/SOSCO/T1CK/U1ARX/CN0/RC14 (io), 36 ~{FLTA}/INT0/RE8 (io), 37 EMUD2/OC2/IC2/INT2/RD1 (io), 38 OC4/RD3 (io), 39 VSS (power), 40 VDD (power), 41 OC3/RD2 (io), 42 EMUC2/OC1/IC1/INT1/RD0 (io), 43 SCK1/RF6 (io), 44 PGD/EMUD/U1TX/SDO1/SCL/RF3 (io), 45 ThermalPad

## DSPIC30F3011T-20E/PT
designator U?
High-Performance 16-bit Digital Signal Controller, 24 KB Flash, 1 KB SRAM, 1 KB EEPROM, 44-Pin TQFP, Extended High Temperature, Tape and Reel; Published: 29-Jan-2009; DatasheetVersion: revE, Apr-2008; PackageVersion: revAW, Oct-2008; PackageReference: TQFP-PT44; Publisher: Altium Limited; PackageDescription: 44-Lead Plastic Thin Quad Flatpack (PT) - 10x10x1mm Body, 2.00mm [TQFP]; Code_JEDEC: MS-026; ComponentLink1Description: Manufacturer Link; ComponentLink1URL: http://www.microchip.com; ComponentLink2Description: Datasheet; ComponentLink2URL: http://ww1.microchip.com/downloads/en/DeviceDoc/70141e.pdf; ComponentLink3Description: Packaging Specification; ComponentLink3URL: http://ww1.microchip.com/downloads/en/PackagingSpec/00049AW.pdf
footprint TQFP-PT44_N (Thin QFP, 44-Leads, Body 10x10mm, Pitch 0.8mm, IPC Medium Density)
footprint TQFP-PT44_L (Thin QFP, 44-Leads, Body 10x10mm, Pitch 0.8mm, IPC High Density)
footprint TQFP-PT44_M (Thin QFP, 44-Leads, Body 10x10mm, Pitch 0.8mm, IPC Low Density)
pins: 1 PGC/EMUC/U1RX/SDI1/SDA/RF2 (io), 2 U2TX/CN18/RF5 (io), 3 U2RX/CN17/RF4 (io), 4 RF1 (io), 5 RF0 (io), 6 VSS (power), 7 VDD (power), 8 PWM3H/RE5 (io), 9 PWM3L/RE4 (io), 10 PWM2H/RE3 (io), 11 PWM2L/RE2 (io), 12 NC, 13 NC, 14 PWM1H/RE1 (io), 15 PWM1L/RE0 (io), 16 AVSS (power), 17 AVDD (power), 18 ~{MCLR} (in), 19 EMUD3/AN0/VREF+/CN2/RB0 (io), 20 EMUC3/AN1/VREF-/CN3/RB1 (io), 21 AN2/~{SS1}/CN4/RB2 (io), 22 AN3/INDX/CN5/RB3 (io), 23 AN4/QEA/IC7/CN6/RB4 (io), 24 AN5/QEB/IC8/CN7/RB5 (io), 25 AN6/OCFA/RB6 (io), 26 AN7/RB7 (io), 27 AN8/RB8 (io), 28 VDD (power), 29 VSS (power), 30 OSC1/CLKI (in), 31 OSC2/CLKO/RC15 (io), 32 EMUD1/SOSCI/T2CK/U1ATX/CN1/RC13 (io), 33 NC, 34 NC, 35 EMUC1/SOSCO/T1CK/U1ARX/CN0/RC14 (io), 36 ~{FLTA}/INT0/RE8 (io), 37 EMUD2/OC2/IC2/INT2/RD1 (io), 38 OC4/RD3 (io), 39 VSS (power), 40 VDD (power), 41 OC3/RD2 (io), 42 EMUC2/OC1/IC1/INT1/RD0 (io), 43 SCK1/RF6 (io), 44 PGD/EMUD/U1TX/SDO1/SCL/RF3 (io)

## DSPIC30F3011T-20I/ML
designator U?
High-Performance 16-bit Digital Signal Controller, 24 KB Flash, 1 KB SRAM, 1 KB EEPROM, 44-Pin QFN, Industrial Temperature, Tape and Reel; Published: 29-Jan-2009; DatasheetVersion: revE, Apr-2008; PackageVersion: revAW, Oct-2008; PackageReference: QFN-ML44; Publisher: Altium Limited; PackageDescription: 44-Lead Plastic Quad Flat, No Lead Package (ML) - 8x8 mm Body [QFN]; Code_JEDEC: MO-220; Code_IPC: QFN65P800X800-44V2; ComponentLink1Description: Manufacturer Link; ComponentLink1URL: http://www.microchip.com; ComponentLink2Description: Datasheet; ComponentLink2URL: http://ww1.microchip.com/downloads/en/DeviceDoc/70141e.pdf; ComponentLink3Description: Packaging Specification; ComponentLink3URL: http://ww1.microchip.com/downloads/en/PackagingSpec/00049AW.pdf
footprint QFN-ML44_N (QFN, 44-Leads, Body 8x8 mm, Pitch 0.65mm, IPC Medium Density)
footprint QFN-ML44_L (QFN, 44-Leads, Body 8x8 mm, Pitch 0.65mm, IPC High Density)
footprint QFN-ML44_M (QFN, 44-Leads, Body 8x8 mm, Pitch 0.65mm, IPC Low Density)
pins: 1 PGC/EMUC/U1RX/SDI1/SDA/RF2 (io), 2 U2TX/CN18/RF5 (io), 3 U2RX/CN17/RF4 (io), 4 RF1 (io), 5 RF0 (io), 6 VSS (power), 7 VDD (power), 8 VDD (power), 9 PWM3H/RE5 (io), 10 PWM3L/RE4 (io), 11 PWM2H/RE3 (io), 12 PWM2L/RE2 (io), 13 NC, 14 PWM1H/RE1 (io), 15 PWM1L/RE0 (io), 16 AVSS (power), 17 AVDD (power), 18 ~{MCLR} (in), 19 EMUD3/AN0/VREF+/CN2/RB0 (io), 20 EMUC3/AN1/VREF-/CN3/RB1 (io), 21 AN2/~{SS1}/CN4/RB2 (io), 22 AN3/INDX/CN5/RB3 (io), 23 AN4/QEA/IC7/CN6/RB4 (io), 24 AN5/QEB/IC8/CN7/RB5 (io), 25 AN6/OCFA/RB6 (io), 26 AN7/RB7 (io), 27 AN8/RB8 (io), 28 VDD (power), 29 VDD (power), 30 VSS (power), 31 VSS (power), 32 OSC1/CLKI (in), 33 OSC2/CLKO/RC15 (io), 34 EMUD1/SOSCI/T2CK/U1ATX/CN1/RC13 (io), 35 EMUC1/SOSCO/T1CK/U1ARX/CN0/RC14 (io), 36 ~{FLTA}/INT0/RE8 (io), 37 EMUD2/OC2/IC2/INT2/RD1 (io), 38 OC4/RD3 (io), 39 VSS (power), 40 VDD (power), 41 OC3/RD2 (io), 42 EMUC2/OC1/IC1/INT1/RD0 (io), 43 SCK1/RF6 (io), 44 PGD/EMUD/U1TX/SDO1/SCL/RF3 (io), 45 ThermalPad

## DSPIC30F3011T-20I/PT
designator U?
High-Performance 16-bit Digital Signal Controller, 24 KB Flash, 1 KB SRAM, 1 KB EEPROM, 44-Pin TQFP, Industrial Temperature, Tape and Reel; Published: 29-Jan-2009; DatasheetVersion: revE, Apr-2008; PackageVersion: revAW, Oct-2008; PackageReference: TQFP-PT44; Publisher: Altium Limited; PackageDescription: 44-Lead Plastic Thin Quad Flatpack (PT) - 10x10x1mm Body, 2.00mm [TQFP]; Code_JEDEC: MS-026; ComponentLink1Description: Manufacturer Link; ComponentLink1URL: http://www.microchip.com; ComponentLink2Description: Datasheet; ComponentLink2URL: http://ww1.microchip.com/downloads/en/DeviceDoc/70141e.pdf; ComponentLink3Description: Packaging Specification; ComponentLink3URL: http://ww1.microchip.com/downloads/en/PackagingSpec/00049AW.pdf
footprint TQFP-PT44_N (Thin QFP, 44-Leads, Body 10x10mm, Pitch 0.8mm, IPC Medium Density)
footprint TQFP-PT44_L (Thin QFP, 44-Leads, Body 10x10mm, Pitch 0.8mm, IPC High Density)
footprint TQFP-PT44_M (Thin QFP, 44-Leads, Body 10x10mm, Pitch 0.8mm, IPC Low Density)
pins: 1 PGC/EMUC/U1RX/SDI1/SDA/RF2 (io), 2 U2TX/CN18/RF5 (io), 3 U2RX/CN17/RF4 (io), 4 RF1 (io), 5 RF0 (io), 6 VSS (power), 7 VDD (power), 8 PWM3H/RE5 (io), 9 PWM3L/RE4 (io), 10 PWM2H/RE3 (io), 11 PWM2L/RE2 (io), 12 NC, 13 NC, 14 PWM1H/RE1 (io), 15 PWM1L/RE0 (io), 16 AVSS (power), 17 AVDD (power), 18 ~{MCLR} (in), 19 EMUD3/AN0/VREF+/CN2/RB0 (io), 20 EMUC3/AN1/VREF-/CN3/RB1 (io), 21 AN2/~{SS1}/CN4/RB2 (io), 22 AN3/INDX/CN5/RB3 (io), 23 AN4/QEA/IC7/CN6/RB4 (io), 24 AN5/QEB/IC8/CN7/RB5 (io), 25 AN6/OCFA/RB6 (io), 26 AN7/RB7 (io), 27 AN8/RB8 (io), 28 VDD (power), 29 VSS (power), 30 OSC1/CLKI (in), 31 OSC2/CLKO/RC15 (io), 32 EMUD1/SOSCI/T2CK/U1ATX/CN1/RC13 (io), 33 NC, 34 NC, 35 EMUC1/SOSCO/T1CK/U1ARX/CN0/RC14 (io), 36 ~{FLTA}/INT0/RE8 (io), 37 EMUD2/OC2/IC2/INT2/RD1 (io), 38 OC4/RD3 (io), 39 VSS (power), 40 VDD (power), 41 OC3/RD2 (io), 42 EMUC2/OC1/IC1/INT1/RD0 (io), 43 SCK1/RF6 (io), 44 PGD/EMUD/U1TX/SDO1/SCL/RF3 (io)

## DSPIC30F3011T-30I/ML
designator U?
High-Performance 16-bit Digital Signal Controller, 24 KB Flash, 1 KB SRAM, 1 KB EEPROM, 44-Pin QFN, Industrial Temperature, Tape and Reel; Published: 29-Jan-2009; DatasheetVersion: revE, Apr-2008; PackageVersion: revAW, Oct-2008; PackageReference: QFN-ML44; Publisher: Altium Limited; PackageDescription: 44-Lead Plastic Quad Flat, No Lead Package (ML) - 8x8 mm Body [QFN]; Code_JEDEC: MO-220; Code_IPC: QFN65P800X800-44V2; ComponentLink1Description: Manufacturer Link; ComponentLink1URL: http://www.microchip.com; ComponentLink2Description: Datasheet; ComponentLink2URL: http://ww1.microchip.com/downloads/en/DeviceDoc/70141e.pdf; ComponentLink3Description: Packaging Specification; ComponentLink3URL: http://ww1.microchip.com/downloads/en/PackagingSpec/00049AW.pdf
footprint QFN-ML44_N (QFN, 44-Leads, Body 8x8 mm, Pitch 0.65mm, IPC Medium Density)
footprint QFN-ML44_L (QFN, 44-Leads, Body 8x8 mm, Pitch 0.65mm, IPC High Density)
footprint QFN-ML44_M (QFN, 44-Leads, Body 8x8 mm, Pitch 0.65mm, IPC Low Density)
pins: 1 PGC/EMUC/U1RX/SDI1/SDA/RF2 (io), 2 U2TX/CN18/RF5 (io), 3 U2RX/CN17/RF4 (io), 4 RF1 (io), 5 RF0 (io), 6 VSS (power), 7 VDD (power), 8 VDD (power), 9 PWM3H/RE5 (io), 10 PWM3L/RE4 (io), 11 PWM2H/RE3 (io), 12 PWM2L/RE2 (io), 13 NC, 14 PWM1H/RE1 (io), 15 PWM1L/RE0 (io), 16 AVSS (power), 17 AVDD (power), 18 ~{MCLR} (in), 19 EMUD3/AN0/VREF+/CN2/RB0 (io), 20 EMUC3/AN1/VREF-/CN3/RB1 (io), 21 AN2/~{SS1}/CN4/RB2 (io), 22 AN3/INDX/CN5/RB3 (io), 23 AN4/QEA/IC7/CN6/RB4 (io), 24 AN5/QEB/IC8/CN7/RB5 (io), 25 AN6/OCFA/RB6 (io), 26 AN7/RB7 (io), 27 AN8/RB8 (io), 28 VDD (power), 29 VDD (power), 30 VSS (power), 31 VSS (power), 32 OSC1/CLKI (in), 33 OSC2/CLKO/RC15 (io), 34 EMUD1/SOSCI/T2CK/U1ATX/CN1/RC13 (io), 35 EMUC1/SOSCO/T1CK/U1ARX/CN0/RC14 (io), 36 ~{FLTA}/INT0/RE8 (io), 37 EMUD2/OC2/IC2/INT2/RD1 (io), 38 OC4/RD3 (io), 39 VSS (power), 40 VDD (power), 41 OC3/RD2 (io), 42 EMUC2/OC1/IC1/INT1/RD0 (io), 43 SCK1/RF6 (io), 44 PGD/EMUD/U1TX/SDO1/SCL/RF3 (io), 45 ThermalPad

## DSPIC30F3011T-30I/PT
designator U?
High-Performance 16-bit Digital Signal Controller, 24 KB Flash, 1 KB SRAM, 1 KB EEPROM, 44-Pin TQFP, Industrial Temperature, Tape and Reel; Published: 29-Jan-2009; DatasheetVersion: revE, Apr-2008; PackageVersion: revAW, Oct-2008; PackageReference: TQFP-PT44; Publisher: Altium Limited; PackageDescription: 44-Lead Plastic Thin Quad Flatpack (PT) - 10x10x1mm Body, 2.00mm [TQFP]; Code_JEDEC: MS-026; ComponentLink1Description: Manufacturer Link; ComponentLink1URL: http://www.microchip.com; ComponentLink2Description: Datasheet; ComponentLink2URL: http://ww1.microchip.com/downloads/en/DeviceDoc/70141e.pdf; ComponentLink3Description: Packaging Specification; ComponentLink3URL: http://ww1.microchip.com/downloads/en/PackagingSpec/00049AW.pdf
footprint TQFP-PT44_N (Thin QFP, 44-Leads, Body 10x10mm, Pitch 0.8mm, IPC Medium Density)
footprint TQFP-PT44_L (Thin QFP, 44-Leads, Body 10x10mm, Pitch 0.8mm, IPC High Density)
footprint TQFP-PT44_M (Thin QFP, 44-Leads, Body 10x10mm, Pitch 0.8mm, IPC Low Density)
pins: 1 PGC/EMUC/U1RX/SDI1/SDA/RF2 (io), 2 U2TX/CN18/RF5 (io), 3 U2RX/CN17/RF4 (io), 4 RF1 (io), 5 RF0 (io), 6 VSS (power), 7 VDD (power), 8 PWM3H/RE5 (io), 9 PWM3L/RE4 (io), 10 PWM2H/RE3 (io), 11 PWM2L/RE2 (io), 12 NC, 13 NC, 14 PWM1H/RE1 (io), 15 PWM1L/RE0 (io), 16 AVSS (power), 17 AVDD (power), 18 ~{MCLR} (in), 19 EMUD3/AN0/VREF+/CN2/RB0 (io), 20 EMUC3/AN1/VREF-/CN3/RB1 (io), 21 AN2/~{SS1}/CN4/RB2 (io), 22 AN3/INDX/CN5/RB3 (io), 23 AN4/QEA/IC7/CN6/RB4 (io), 24 AN5/QEB/IC8/CN7/RB5 (io), 25 AN6/OCFA/RB6 (io), 26 AN7/RB7 (io), 27 AN8/RB8 (io), 28 VDD (power), 29 VSS (power), 30 OSC1/CLKI (in), 31 OSC2/CLKO/RC15 (io), 32 EMUD1/SOSCI/T2CK/U1ATX/CN1/RC13 (io), 33 NC, 34 NC, 35 EMUC1/SOSCO/T1CK/U1ARX/CN0/RC14 (io), 36 ~{FLTA}/INT0/RE8 (io), 37 EMUD2/OC2/IC2/INT2/RD1 (io), 38 OC4/RD3 (io), 39 VSS (power), 40 VDD (power), 41 OC3/RD2 (io), 42 EMUC2/OC1/IC1/INT1/RD0 (io), 43 SCK1/RF6 (io), 44 PGD/EMUD/U1TX/SDO1/SCL/RF3 (io)

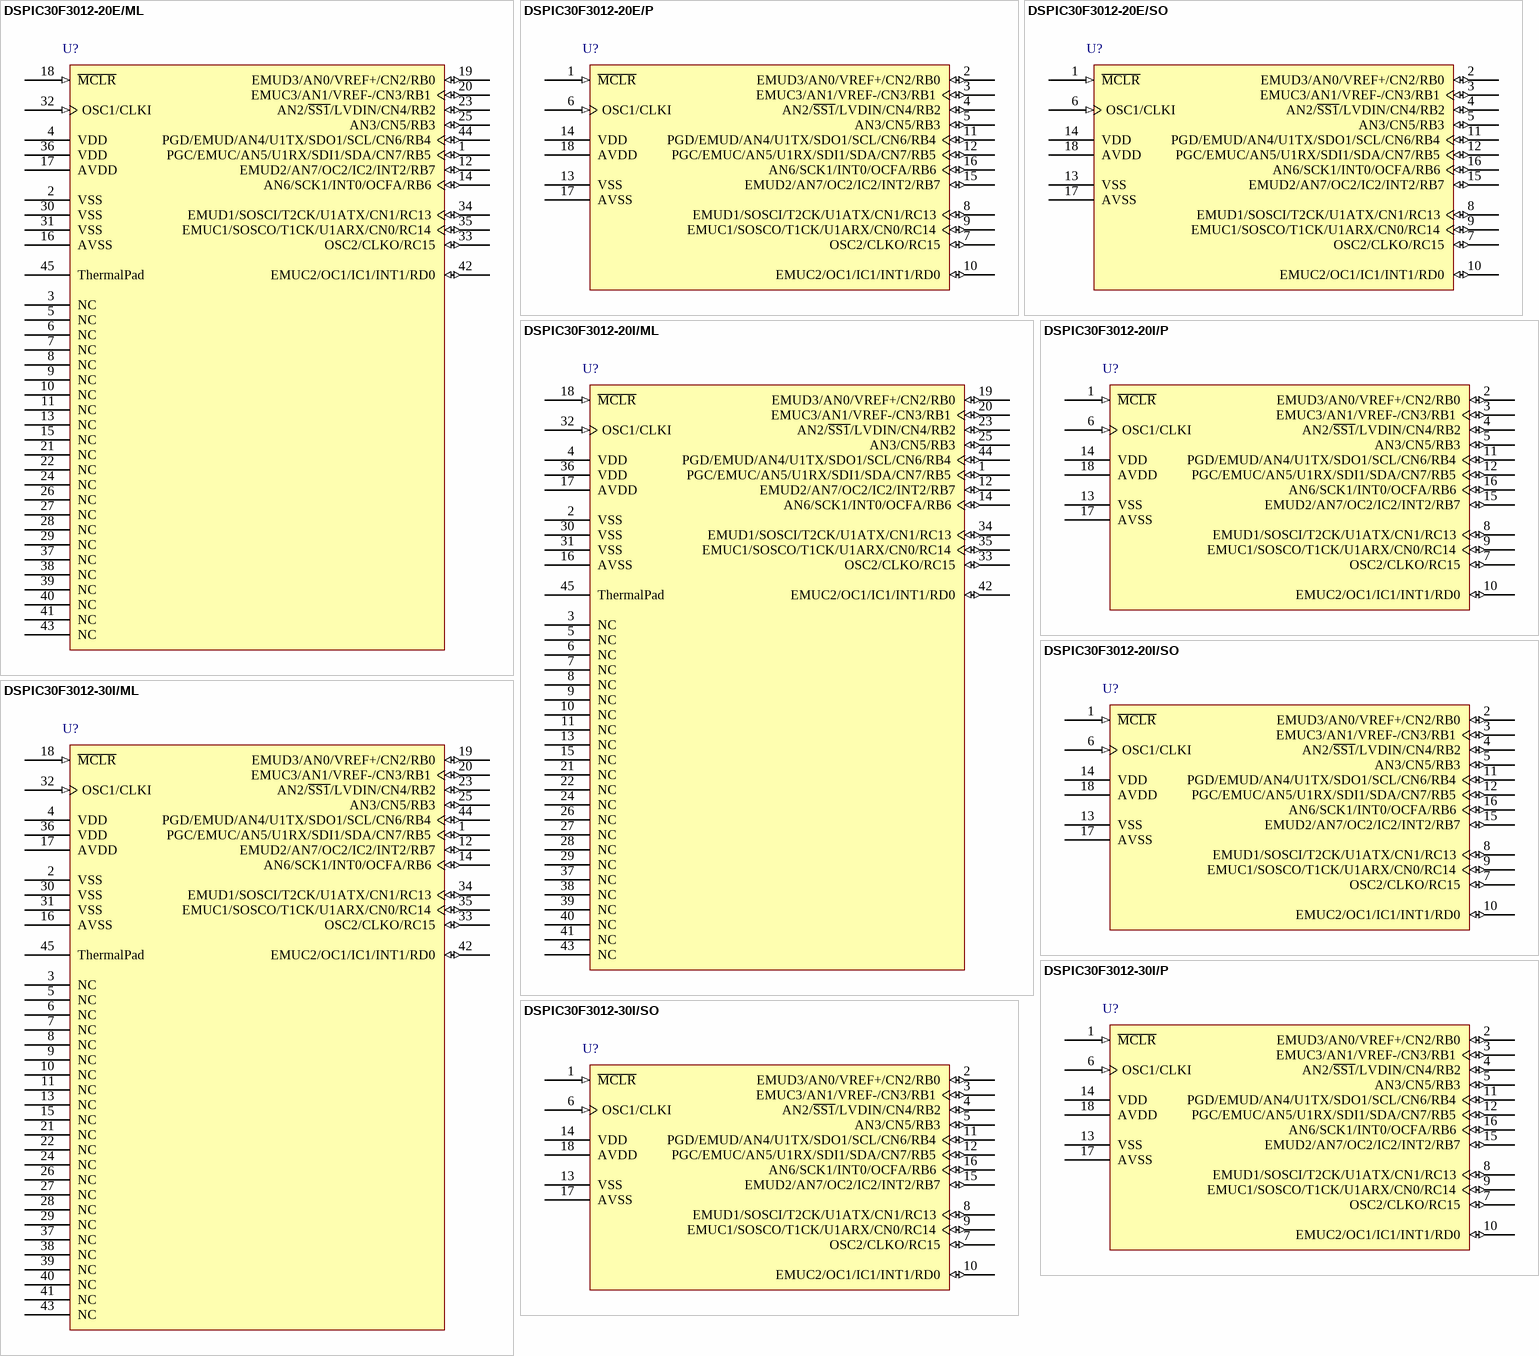
[diagram p13: symbols DSPIC30F3012-20E/ML to DSPIC30F3012-30I/SO]

## DSPIC30F3012-20E/ML
designator U?
High-Performance 16-bit Digital Signal Controller, 24 KB Flash, 2 KB SRAM, 1 KB EEPROM, 44-Pin QFN, Extended High Temperature; Published: 29-Jan-2009; DatasheetVersion: revF, May-2008; PackageVersion: revAW, Oct-2008; PackageReference: QFN-ML44; Publisher: Altium Limited; PackageDescription: 44-Lead Plastic Quad Flat, No Lead Package (ML) - 8x8 mm Body [QFN]; Code_JEDEC: MO-220; Code_IPC: QFN65P800X800-44V2; ComponentLink1Description: Manufacturer Link; ComponentLink1URL: http://www.microchip.com; ComponentLink2Description: Datasheet; ComponentLink2URL: http://ww1.microchip.com/downloads/en/DeviceDoc/70139F.pdf; ComponentLink3Description: Packaging Specification; ComponentLink3URL: http://ww1.microchip.com/downloads/en/PackagingSpec/00049AW.pdf
footprint QFN-ML44_N (QFN, 44-Leads, Body 8x8 mm, Pitch 0.65mm, IPC Medium Density)
footprint QFN-ML44_L (QFN, 44-Leads, Body 8x8 mm, Pitch 0.65mm, IPC High Density)
footprint QFN-ML44_M (QFN, 44-Leads, Body 8x8 mm, Pitch 0.65mm, IPC Low Density)
pins: 1 PGC/EMUC/AN5/U1RX/SDI1/SDA/CN7/RB5 (io), 2 VSS (power), 3 NC, 4 VDD (power), 5 NC, 6 NC, 7 NC, 8 NC, 9 NC, 10 NC, 11 NC, 12 EMUD2/AN7/OC2/IC2/INT2/RB7 (io), 13 NC, 14 AN6/SCK1/INT0/OCFA/RB6 (io), 15 NC, 16 AVSS (power), 17 AVDD (power), 18 ~{MCLR} (in), 19 EMUD3/AN0/VREF+/CN2/RB0 (io), 20 EMUC3/AN1/VREF-/CN3/RB1 (io), 21 NC, 22 NC, 23 AN2/~{SS1}/LVDIN/CN4/RB2 (io), 24 NC, 25 AN3/CN5/RB3 (io), 26 NC, 27 NC, 28 NC, 29 NC, 30 VSS (power), 31 VSS (power), 32 OSC1/CLKI (in), 33 OSC2/CLKO/RC15 (io), 34 EMUD1/SOSCI/T2CK/U1ATX/CN1/RC13 (io), 35 EMUC1/SOSCO/T1CK/U1ARX/CN0/RC14 (io), 36 VDD (power), 37 NC, 38 NC, 39 NC, 40 NC, 41 NC, 42 EMUC2/OC1/IC1/INT1/RD0 (io), 43 NC, 44 PGD/EMUD/AN4/U1TX/SDO1/SCL/CN6/RB4 (io), 45 ThermalPad

## DSPIC30F3012-20E/P
designator U?
High-Performance 16-bit Digital Signal Controller, 24 KB Flash, 2 KB SRAM, 1 KB EEPROM, 18-Pin PDIP, Extended High Temperature; Published: 29-Jan-2009; DatasheetVersion: revF, May-2008; PackageVersion: revAW, Oct-2008; PackageReference: PDIP300-P18; Publisher: Altium Limited; PackageDescription: 18-Lead Plastic Dual In-Line (P) - 300 mil Body [PDIP]; Code_JEDEC: MS-001; ComponentLink1Description: Manufacturer Link; ComponentLink1URL: http://www.microchip.com; ComponentLink2Description: Datasheet; ComponentLink2URL: http://ww1.microchip.com/downloads/en/DeviceDoc/70139F.pdf; ComponentLink3Description: Packaging Specification; ComponentLink3URL: http://ww1.microchip.com/downloads/en/PackagingSpec/00049AW.pdf
footprint PDIP300-P18 (DIP, 18-Leads, Row Spacing 7.62mm, Pitch 2.54mm, Body 22.9x6.6mm)
pins: 1 ~{MCLR} (in), 2 EMUD3/AN0/VREF+/CN2/RB0 (io), 3 EMUC3/AN1/VREF-/CN3/RB1 (io), 4 AN2/~{SS1}/LVDIN/CN4/RB2 (io), 5 AN3/CN5/RB3 (io), 6 OSC1/CLKI (in), 7 OSC2/CLKO/RC15 (io), 8 EMUD1/SOSCI/T2CK/U1ATX/CN1/RC13 (io), 9 EMUC1/SOSCO/T1CK/U1ARX/CN0/RC14 (io), 10 EMUC2/OC1/IC1/INT1/RD0 (io), 11 PGD/EMUD/AN4/U1TX/SDO1/SCL/CN6/RB4 (io), 12 PGC/EMUC/AN5/U1RX/SDI1/SDA/CN7/RB5 (io), 13 VSS (power), 14 VDD (power), 15 EMUD2/AN7/OC2/IC2/INT2/RB7 (io), 16 AN6/SCK1/INT0/OCFA/RB6 (io), 17 AVSS (power), 18 AVDD (power)

## DSPIC30F3012-20E/SO
designator U?
High-Performance 16-bit Digital Signal Controller, 24 KB Flash, 2 KB SRAM, 1 KB EEPROM, 18-Pin SOIC, Extended High Temperature; Published: 29-Jan-2009; DatasheetVersion: revF, May-2008; PackageVersion: revAW, Oct-2008; PackageReference: SOIC-SO18; Publisher: Altium Limited; PackageDescription: 18-Lead Plastic Small Outline (SO) - Wide 7.50mm Body [SOIC]; Code_JEDEC: MS-013; ComponentLink1Description: Manufacturer Link; ComponentLink1URL: http://www.microchip.com; ComponentLink2Description: Datasheet; ComponentLink2URL: http://ww1.microchip.com/downloads/en/DeviceDoc/70139F.pdf; ComponentLink3Description: Packaging Specification; ComponentLink3URL: http://ww1.microchip.com/downloads/en/PackagingSpec/00049AW.pdf
footprint SOIC-SO18_N (SOIC, 18-Leads, Body 11.5x7.5mm, Pitch 1.27mm, IPC Medium Density)
footprint SOIC-SO18_L (SOIC, 18-Leads, Body 11.5x7.5mm, Pitch 1.27mm, IPC High Density)
footprint SOIC-SO18_M (SOIC, 18-Leads, Body 11.5x7.5mm, Pitch 1.27mm, IPC Low Density)
pins: 1 ~{MCLR} (in), 2 EMUD3/AN0/VREF+/CN2/RB0 (io), 3 EMUC3/AN1/VREF-/CN3/RB1 (io), 4 AN2/~{SS1}/LVDIN/CN4/RB2 (io), 5 AN3/CN5/RB3 (io), 6 OSC1/CLKI (in), 7 OSC2/CLKO/RC15 (io), 8 EMUD1/SOSCI/T2CK/U1ATX/CN1/RC13 (io), 9 EMUC1/SOSCO/T1CK/U1ARX/CN0/RC14 (io), 10 EMUC2/OC1/IC1/INT1/RD0 (io), 11 PGD/EMUD/AN4/U1TX/SDO1/SCL/CN6/RB4 (io), 12 PGC/EMUC/AN5/U1RX/SDI1/SDA/CN7/RB5 (io), 13 VSS (power), 14 VDD (power), 15 EMUD2/AN7/OC2/IC2/INT2/RB7 (io), 16 AN6/SCK1/INT0/OCFA/RB6 (io), 17 AVSS (power), 18 AVDD (power)

## DSPIC30F3012-20I/ML
designator U?
High-Performance 16-bit Digital Signal Controller, 24 KB Flash, 2 KB SRAM, 1 KB EEPROM, 44-Pin QFN, Industrial Temperature; Published: 29-Jan-2009; DatasheetVersion: revF, May-2008; PackageVersion: revAW, Oct-2008; PackageReference: QFN-ML44; Publisher: Altium Limited; PackageDescription: 44-Lead Plastic Quad Flat, No Lead Package (ML) - 8x8 mm Body [QFN]; Code_JEDEC: MO-220; Code_IPC: QFN65P800X800-44V2; ComponentLink1Description: Manufacturer Link; ComponentLink1URL: http://www.microchip.com; ComponentLink2Description: Datasheet; ComponentLink2URL: http://ww1.microchip.com/downloads/en/DeviceDoc/70139F.pdf; ComponentLink3Description: Packaging Specification; ComponentLink3URL: http://ww1.microchip.com/downloads/en/PackagingSpec/00049AW.pdf
footprint QFN-ML44_N (QFN, 44-Leads, Body 8x8 mm, Pitch 0.65mm, IPC Medium Density)
footprint QFN-ML44_L (QFN, 44-Leads, Body 8x8 mm, Pitch 0.65mm, IPC High Density)
footprint QFN-ML44_M (QFN, 44-Leads, Body 8x8 mm, Pitch 0.65mm, IPC Low Density)
pins: 1 PGC/EMUC/AN5/U1RX/SDI1/SDA/CN7/RB5 (io), 2 VSS (power), 3 NC, 4 VDD (power), 5 NC, 6 NC, 7 NC, 8 NC, 9 NC, 10 NC, 11 NC, 12 EMUD2/AN7/OC2/IC2/INT2/RB7 (io), 13 NC, 14 AN6/SCK1/INT0/OCFA/RB6 (io), 15 NC, 16 AVSS (power), 17 AVDD (power), 18 ~{MCLR} (in), 19 EMUD3/AN0/VREF+/CN2/RB0 (io), 20 EMUC3/AN1/VREF-/CN3/RB1 (io), 21 NC, 22 NC, 23 AN2/~{SS1}/LVDIN/CN4/RB2 (io), 24 NC, 25 AN3/CN5/RB3 (io), 26 NC, 27 NC, 28 NC, 29 NC, 30 VSS (power), 31 VSS (power), 32 OSC1/CLKI (in), 33 OSC2/CLKO/RC15 (io), 34 EMUD1/SOSCI/T2CK/U1ATX/CN1/RC13 (io), 35 EMUC1/SOSCO/T1CK/U1ARX/CN0/RC14 (io), 36 VDD (power), 37 NC, 38 NC, 39 NC, 40 NC, 41 NC, 42 EMUC2/OC1/IC1/INT1/RD0 (io), 43 NC, 44 PGD/EMUD/AN4/U1TX/SDO1/SCL/CN6/RB4 (io), 45 ThermalPad

## DSPIC30F3012-20I/P
designator U?
High-Performance 16-bit Digital Signal Controller, 24 KB Flash, 2 KB SRAM, 1 KB EEPROM, 18-Pin PDIP, Industrial Temperature; Published: 29-Jan-2009; DatasheetVersion: revF, May-2008; PackageVersion: revAW, Oct-2008; PackageReference: PDIP300-P18; Publisher: Altium Limited; PackageDescription: 18-Lead Plastic Dual In-Line (P) - 300 mil Body [PDIP]; Code_JEDEC: MS-001; ComponentLink1Description: Manufacturer Link; ComponentLink1URL: http://www.microchip.com; ComponentLink2Description: Datasheet; ComponentLink2URL: http://ww1.microchip.com/downloads/en/DeviceDoc/70139F.pdf; ComponentLink3Description: Packaging Specification; ComponentLink3URL: http://ww1.microchip.com/downloads/en/PackagingSpec/00049AW.pdf
footprint PDIP300-P18 (DIP, 18-Leads, Row Spacing 7.62mm, Pitch 2.54mm, Body 22.9x6.6mm)
pins: 1 ~{MCLR} (in), 2 EMUD3/AN0/VREF+/CN2/RB0 (io), 3 EMUC3/AN1/VREF-/CN3/RB1 (io), 4 AN2/~{SS1}/LVDIN/CN4/RB2 (io), 5 AN3/CN5/RB3 (io), 6 OSC1/CLKI (in), 7 OSC2/CLKO/RC15 (io), 8 EMUD1/SOSCI/T2CK/U1ATX/CN1/RC13 (io), 9 EMUC1/SOSCO/T1CK/U1ARX/CN0/RC14 (io), 10 EMUC2/OC1/IC1/INT1/RD0 (io), 11 PGD/EMUD/AN4/U1TX/SDO1/SCL/CN6/RB4 (io), 12 PGC/EMUC/AN5/U1RX/SDI1/SDA/CN7/RB5 (io), 13 VSS (power), 14 VDD (power), 15 EMUD2/AN7/OC2/IC2/INT2/RB7 (io), 16 AN6/SCK1/INT0/OCFA/RB6 (io), 17 AVSS (power), 18 AVDD (power)

## DSPIC30F3012-20I/SO
designator U?
High-Performance 16-bit Digital Signal Controller, 24 KB Flash, 2 KB SRAM, 1 KB EEPROM, 18-Pin SOIC, Industrial Temperature; Published: 29-Jan-2009; DatasheetVersion: revF, May-2008; PackageVersion: revAW, Oct-2008; PackageReference: SOIC-SO18; Publisher: Altium Limited; PackageDescription: 18-Lead Plastic Small Outline (SO) - Wide 7.50mm Body [SOIC]; Code_JEDEC: MS-013; ComponentLink1Description: Manufacturer Link; ComponentLink1URL: http://www.microchip.com; ComponentLink2Description: Datasheet; ComponentLink2URL: http://ww1.microchip.com/downloads/en/DeviceDoc/70139F.pdf; ComponentLink3Description: Packaging Specification; ComponentLink3URL: http://ww1.microchip.com/downloads/en/PackagingSpec/00049AW.pdf
footprint SOIC-SO18_N (SOIC, 18-Leads, Body 11.5x7.5mm, Pitch 1.27mm, IPC Medium Density)
footprint SOIC-SO18_L (SOIC, 18-Leads, Body 11.5x7.5mm, Pitch 1.27mm, IPC High Density)
footprint SOIC-SO18_M (SOIC, 18-Leads, Body 11.5x7.5mm, Pitch 1.27mm, IPC Low Density)
pins: 1 ~{MCLR} (in), 2 EMUD3/AN0/VREF+/CN2/RB0 (io), 3 EMUC3/AN1/VREF-/CN3/RB1 (io), 4 AN2/~{SS1}/LVDIN/CN4/RB2 (io), 5 AN3/CN5/RB3 (io), 6 OSC1/CLKI (in), 7 OSC2/CLKO/RC15 (io), 8 EMUD1/SOSCI/T2CK/U1ATX/CN1/RC13 (io), 9 EMUC1/SOSCO/T1CK/U1ARX/CN0/RC14 (io), 10 EMUC2/OC1/IC1/INT1/RD0 (io), 11 PGD/EMUD/AN4/U1TX/SDO1/SCL/CN6/RB4 (io), 12 PGC/EMUC/AN5/U1RX/SDI1/SDA/CN7/RB5 (io), 13 VSS (power), 14 VDD (power), 15 EMUD2/AN7/OC2/IC2/INT2/RB7 (io), 16 AN6/SCK1/INT0/OCFA/RB6 (io), 17 AVSS (power), 18 AVDD (power)

## DSPIC30F3012-30I/ML
designator U?
High-Performance 16-bit Digital Signal Controller, 24 KB Flash, 2 KB SRAM, 1 KB EEPROM, 44-Pin QFN, Industrial Temperature; Published: 29-Jan-2009; DatasheetVersion: revF, May-2008; PackageVersion: revAW, Oct-2008; PackageReference: QFN-ML44; Publisher: Altium Limited; PackageDescription: 44-Lead Plastic Quad Flat, No Lead Package (ML) - 8x8 mm Body [QFN]; Code_JEDEC: MO-220; Code_IPC: QFN65P800X800-44V2; ComponentLink1Description: Manufacturer Link; ComponentLink1URL: http://www.microchip.com; ComponentLink2Description: Datasheet; ComponentLink2URL: http://ww1.microchip.com/downloads/en/DeviceDoc/70139F.pdf; ComponentLink3Description: Packaging Specification; ComponentLink3URL: http://ww1.microchip.com/downloads/en/PackagingSpec/00049AW.pdf
footprint QFN-ML44_N (QFN, 44-Leads, Body 8x8 mm, Pitch 0.65mm, IPC Medium Density)
footprint QFN-ML44_L (QFN, 44-Leads, Body 8x8 mm, Pitch 0.65mm, IPC High Density)
footprint QFN-ML44_M (QFN, 44-Leads, Body 8x8 mm, Pitch 0.65mm, IPC Low Density)
pins: 1 PGC/EMUC/AN5/U1RX/SDI1/SDA/CN7/RB5 (io), 2 VSS (power), 3 NC, 4 VDD (power), 5 NC, 6 NC, 7 NC, 8 NC, 9 NC, 10 NC, 11 NC, 12 EMUD2/AN7/OC2/IC2/INT2/RB7 (io), 13 NC, 14 AN6/SCK1/INT0/OCFA/RB6 (io), 15 NC, 16 AVSS (power), 17 AVDD (power), 18 ~{MCLR} (in), 19 EMUD3/AN0/VREF+/CN2/RB0 (io), 20 EMUC3/AN1/VREF-/CN3/RB1 (io), 21 NC, 22 NC, 23 AN2/~{SS1}/LVDIN/CN4/RB2 (io), 24 NC, 25 AN3/CN5/RB3 (io), 26 NC, 27 NC, 28 NC, 29 NC, 30 VSS (power), 31 VSS (power), 32 OSC1/CLKI (in), 33 OSC2/CLKO/RC15 (io), 34 EMUD1/SOSCI/T2CK/U1ATX/CN1/RC13 (io), 35 EMUC1/SOSCO/T1CK/U1ARX/CN0/RC14 (io), 36 VDD (power), 37 NC, 38 NC, 39 NC, 40 NC, 41 NC, 42 EMUC2/OC1/IC1/INT1/RD0 (io), 43 NC, 44 PGD/EMUD/AN4/U1TX/SDO1/SCL/CN6/RB4 (io), 45 ThermalPad

## DSPIC30F3012-30I/P
designator U?
High-Performance 16-bit Digital Signal Controller, 24 KB Flash, 2 KB SRAM, 1 KB EEPROM, 18-Pin PDIP, Industrial Temperature; Published: 29-Jan-2009; DatasheetVersion: revF, May-2008; PackageVersion: revAW, Oct-2008; PackageReference: PDIP300-P18; Publisher: Altium Limited; PackageDescription: 18-Lead Plastic Dual In-Line (P) - 300 mil Body [PDIP]; Code_JEDEC: MS-001; ComponentLink1Description: Manufacturer Link; ComponentLink1URL: http://www.microchip.com; ComponentLink2Description: Datasheet; ComponentLink2URL: http://ww1.microchip.com/downloads/en/DeviceDoc/70139F.pdf; ComponentLink3Description: Packaging Specification; ComponentLink3URL: http://ww1.microchip.com/downloads/en/PackagingSpec/00049AW.pdf
footprint PDIP300-P18 (DIP, 18-Leads, Row Spacing 7.62mm, Pitch 2.54mm, Body 22.9x6.6mm)
pins: 1 ~{MCLR} (in), 2 EMUD3/AN0/VREF+/CN2/RB0 (io), 3 EMUC3/AN1/VREF-/CN3/RB1 (io), 4 AN2/~{SS1}/LVDIN/CN4/RB2 (io), 5 AN3/CN5/RB3 (io), 6 OSC1/CLKI (in), 7 OSC2/CLKO/RC15 (io), 8 EMUD1/SOSCI/T2CK/U1ATX/CN1/RC13 (io), 9 EMUC1/SOSCO/T1CK/U1ARX/CN0/RC14 (io), 10 EMUC2/OC1/IC1/INT1/RD0 (io), 11 PGD/EMUD/AN4/U1TX/SDO1/SCL/CN6/RB4 (io), 12 PGC/EMUC/AN5/U1RX/SDI1/SDA/CN7/RB5 (io), 13 VSS (power), 14 VDD (power), 15 EMUD2/AN7/OC2/IC2/INT2/RB7 (io), 16 AN6/SCK1/INT0/OCFA/RB6 (io), 17 AVSS (power), 18 AVDD (power)

## DSPIC30F3012-30I/SO
designator U?
High-Performance 16-bit Digital Signal Controller, 24 KB Flash, 2 KB SRAM, 1 KB EEPROM, 18-Pin SOIC, Industrial Temperature; Published: 29-Jan-2009; DatasheetVersion: revF, May-2008; PackageVersion: revAW, Oct-2008; PackageReference: SOIC-SO18; Publisher: Altium Limited; PackageDescription: 18-Lead Plastic Small Outline (SO) - Wide 7.50mm Body [SOIC]; Code_JEDEC: MS-013; ComponentLink1Description: Manufacturer Link; ComponentLink1URL: http://www.microchip.com; ComponentLink2Description: Datasheet; ComponentLink2URL: http://ww1.microchip.com/downloads/en/DeviceDoc/70139F.pdf; ComponentLink3Description: Packaging Specification; ComponentLink3URL: http://ww1.microchip.com/downloads/en/PackagingSpec/00049AW.pdf
footprint SOIC-SO18_N (SOIC, 18-Leads, Body 11.5x7.5mm, Pitch 1.27mm, IPC Medium Density)
footprint SOIC-SO18_L (SOIC, 18-Leads, Body 11.5x7.5mm, Pitch 1.27mm, IPC High Density)
footprint SOIC-SO18_M (SOIC, 18-Leads, Body 11.5x7.5mm, Pitch 1.27mm, IPC Low Density)
pins: 1 ~{MCLR} (in), 2 EMUD3/AN0/VREF+/CN2/RB0 (io), 3 EMUC3/AN1/VREF-/CN3/RB1 (io), 4 AN2/~{SS1}/LVDIN/CN4/RB2 (io), 5 AN3/CN5/RB3 (io), 6 OSC1/CLKI (in), 7 OSC2/CLKO/RC15 (io), 8 EMUD1/SOSCI/T2CK/U1ATX/CN1/RC13 (io), 9 EMUC1/SOSCO/T1CK/U1ARX/CN0/RC14 (io), 10 EMUC2/OC1/IC1/INT1/RD0 (io), 11 PGD/EMUD/AN4/U1TX/SDO1/SCL/CN6/RB4 (io), 12 PGC/EMUC/AN5/U1RX/SDI1/SDA/CN7/RB5 (io), 13 VSS (power), 14 VDD (power), 15 EMUD2/AN7/OC2/IC2/INT2/RB7 (io), 16 AN6/SCK1/INT0/OCFA/RB6 (io), 17 AVSS (power), 18 AVDD (power)

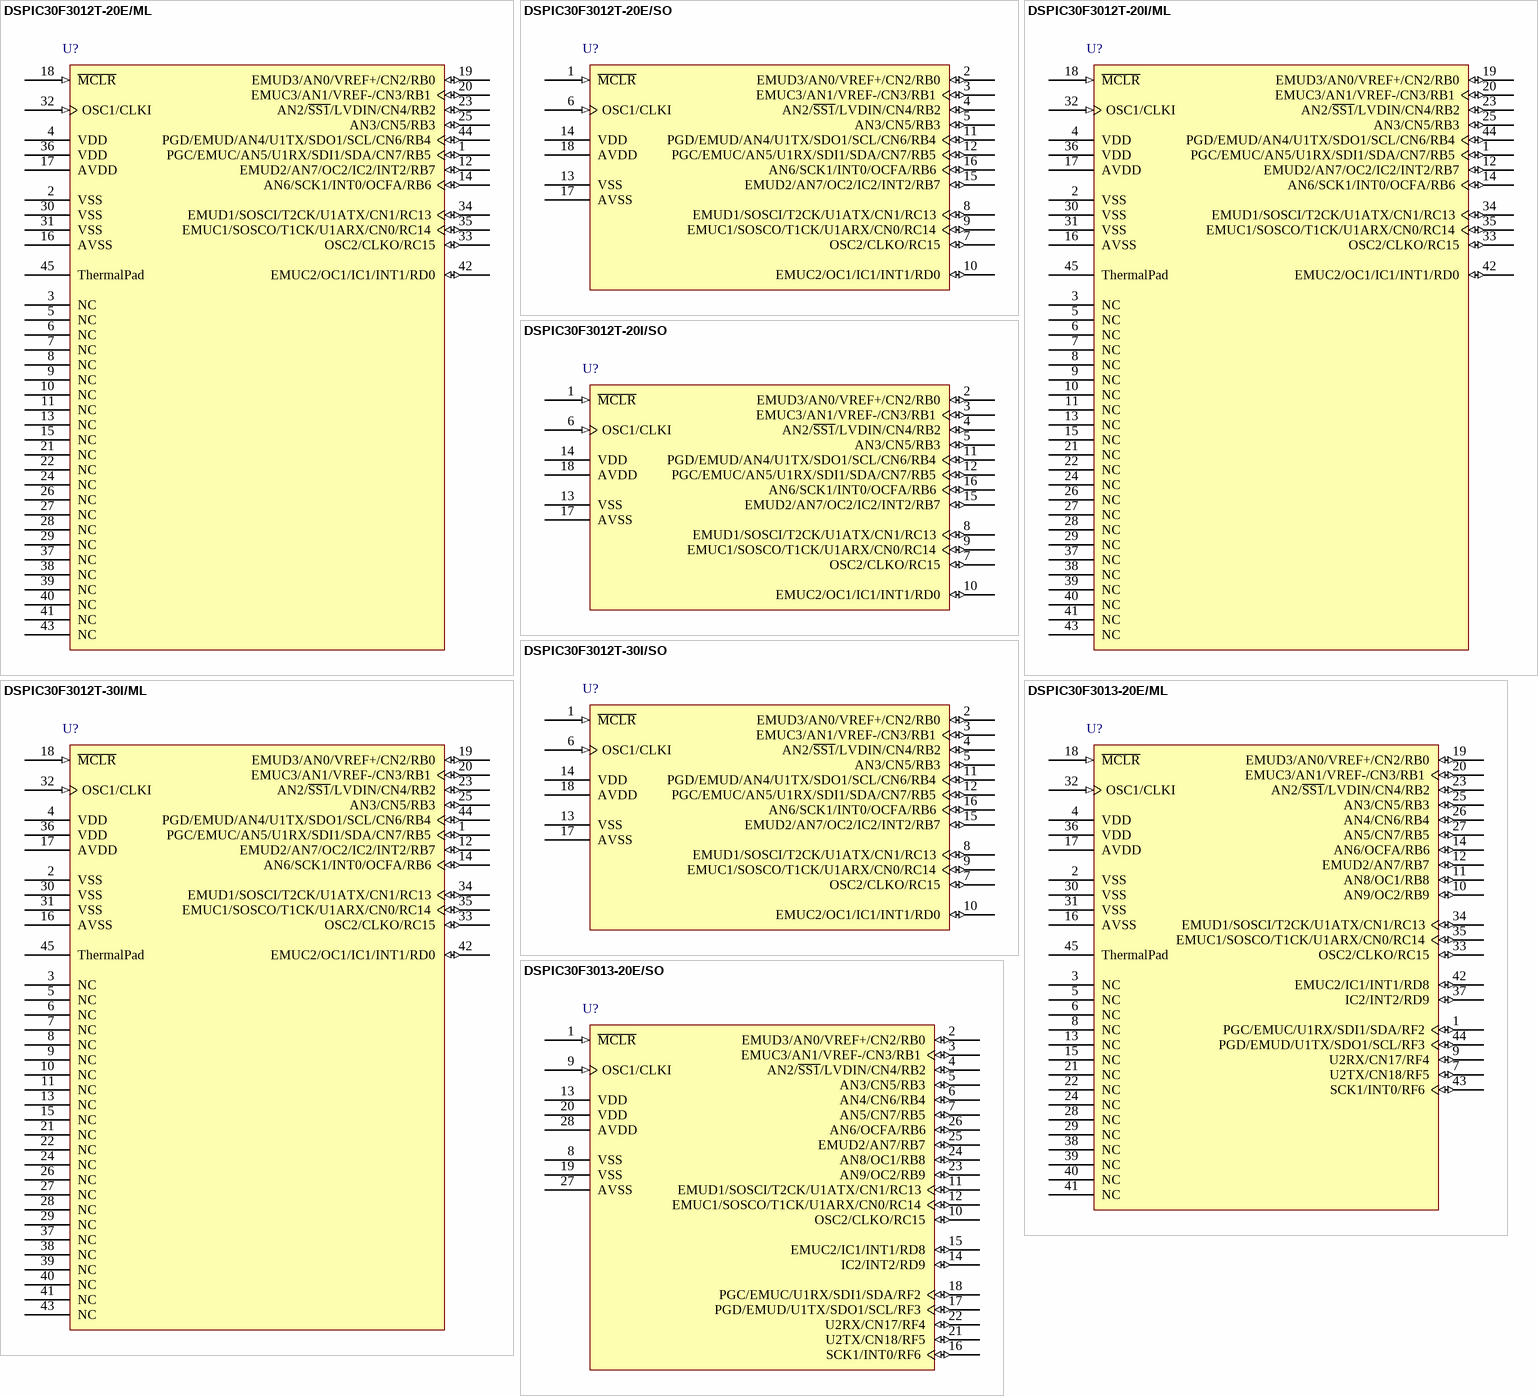
[diagram p14: symbols DSPIC30F3012T-20E/ML to DSPIC30F3013-20E/SO]